# Altium schematic symbol library Schematic-Lib-ABahlmann-IC.SchLib: 124 symbols (part 1 of 4)
Pins are listed as number, name and electrical type; pins without a type are passive.

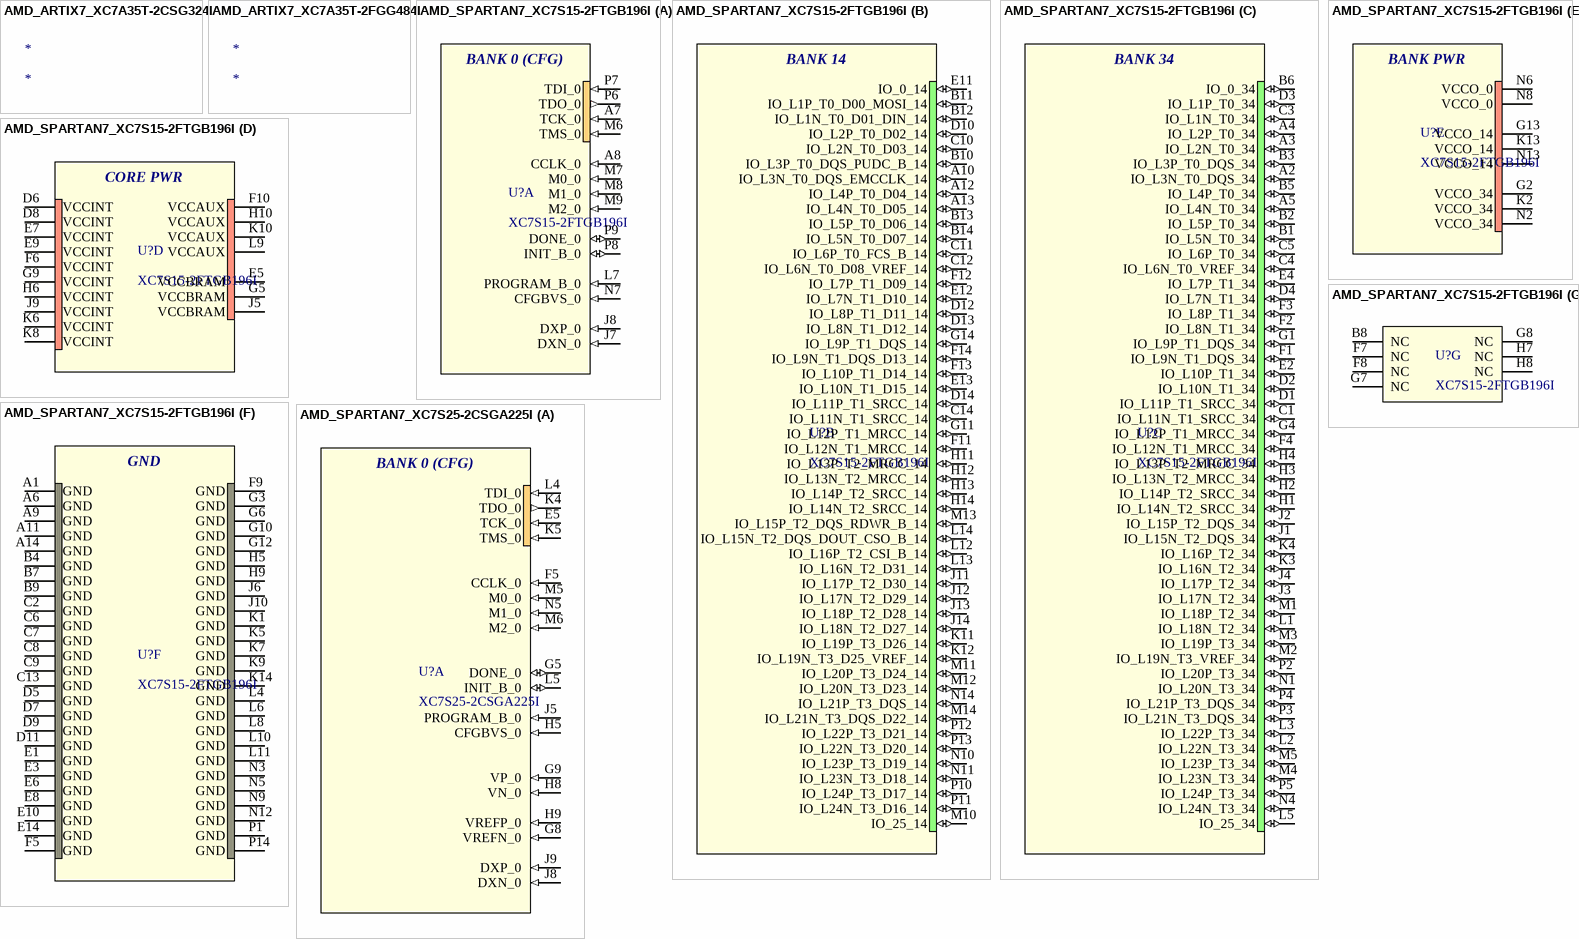
[diagram p0: symbols AMD_ARTIX7_XC7A35T-2CSG324I to AMD_SPARTAN7_XC7S25-2CSGA225I]

## AMD_ARTIX7_XC7A35T-2CSG324I
designator *

## AMD_ARTIX7_XC7A35T-2FGG484I
designator *

## AMD_SPARTAN7_XC7S15-2FTGB196I
designator U?, comment XC7S15-2FTGB196I
Spartan®-7 Field Programmable Gate Array (FPGA) IC 100 368640 12800 196-LBGA, CSPBGA; ComponentLink1Description: Digikey; ComponentLink1URL: https://www.digikey.ca/en/products/detail/amd/XC7S15-2FTGB196I/9380269; ComponentLink2Description: Datasheet; ComponentLink2URL: https://docs.xilinx.com/v/u/en-US/ug475_7Series_Pkg_Pinout
part A pins: A7 TCK_0 (in), A8 CCLK_0 (in), J7 DXN_0 (in), J8 DXP_0 (in), L7 PROGRAM_B_0 (in), M6 TMS_0 (in), M7 M0_0 (in), M8 M1_0 (in), M9 M2_0 (in), N7 CFGBVS_0 (in), P6 TDO_0 (out), P7 TDI_0 (in), P8 INIT_B_0 (io), P9 DONE_0 (io)
part B pins: A10 IO_L3N_T0_DQS_EMCCLK_14 (io), A12 IO_L4P_T0_D04_14 (io), A13 IO_L4N_T0_D05_14 (io), B10 IO_L3P_T0_DQS_PUDC_B_14 (io), B11 IO_L1P_T0_D00_MOSI_14 (io), B12 IO_L1N_T0_D01_DIN_14 (io), B13 IO_L5P_T0_D06_14 (io), B14 IO_L5N_T0_D07_14 (io), C10 IO_L2N_T0_D03_14 (io), C11 IO_L6P_T0_FCS_B_14 (io), C12 IO_L6N_T0_D08_VREF_14 (io), C14 IO_L11N_T1_SRCC_14 (io), D10 IO_L2P_T0_D02_14 (io), D12 IO_L8P_T1_D11_14 (io), D13 IO_L8N_T1_D12_14 (io), D14 IO_L11P_T1_SRCC_14 (io), E11 IO_0_14 (io), E12 IO_L7N_T1_D10_14 (io), E13 IO_L10N_T1_D15_14 (io), F11 IO_L12N_T1_MRCC_14 (io), F12 IO_L7P_T1_D09_14 (io), F13 IO_L10P_T1_D14_14 (io), F14 IO_L9N_T1_DQS_D13_14 (io), G11 IO_L12P_T1_MRCC_14 (io), G14 IO_L9P_T1_DQS_14 (io), H11 IO_L13P_T2_MRCC_14 (io), H12 IO_L13N_T2_MRCC_14 (io), H13 IO_L14P_T2_SRCC_14 (io), H14 IO_L14N_T2_SRCC_14 (io), J11 IO_L17P_T2_D30_14 (io), J12 IO_L17N_T2_D29_14 (io), J13 IO_L18P_T2_D28_14 (io), J14 IO_L18N_T2_D27_14 (io), K11 IO_L19P_T3_D26_14 (io), K12 IO_L19N_T3_D25_VREF_14 (io), L12 IO_L16P_T2_CSI_B_14 (io), L13 IO_L16N_T2_D31_14 (io), L14 IO_L15N_T2_DQS_DOUT_CSO_B_14 (io), M10 IO_25_14 (io), M11 IO_L20P_T3_D24_14 (io), M12 IO_L20N_T3_D23_14 (io), M13 IO_L15P_T2_DQS_RDWR_B_14 (io), M14 IO_L21N_T3_DQS_D22_14 (io), N10 IO_L23P_T3_D19_14 (io), N11 IO_L23N_T3_D18_14 (io), N14 IO_L21P_T3_DQS_14 (io), P10 IO_L24P_T3_D17_14 (io), P11 IO_L24N_T3_D16_14 (io), P12 IO_L22P_T3_D21_14 (io), P13 IO_L22N_T3_D20_14 (io)
part C pins: A2 IO_L3N_T0_DQS_34 (io), A3 IO_L2N_T0_34 (io), A4 IO_L2P_T0_34 (io), A5 IO_L4N_T0_34 (io), B1 IO_L5N_T0_34 (io), B2 IO_L5P_T0_34 (io), B3 IO_L3P_T0_DQS_34 (io), B5 IO_L4P_T0_34 (io), B6 IO_0_34 (io), C1 IO_L11N_T1_SRCC_34 (io), C3 IO_L1N_T0_34 (io), C4 IO_L6N_T0_VREF_34 (io), C5 IO_L6P_T0_34 (io), D1 IO_L11P_T1_SRCC_34 (io), D2 IO_L10N_T1_34 (io), D3 IO_L1P_T0_34 (io), D4 IO_L7N_T1_34 (io), E2 IO_L10P_T1_34 (io), E4 IO_L7P_T1_34 (io), F1 IO_L9N_T1_DQS_34 (io), F2 IO_L8N_T1_34 (io), F3 IO_L8P_T1_34 (io), F4 IO_L12N_T1_MRCC_34 (io), G1 IO_L9P_T1_DQS_34 (io), G4 IO_L12P_T1_MRCC_34 (io), H1 IO_L14N_T2_SRCC_34 (io), H2 IO_L14P_T2_SRCC_34 (io), H3 IO_L13N_T2_MRCC_34 (io), H4 IO_L13P_T2_MRCC_34 (io), J1 IO_L15N_T2_DQS_34 (io), J2 IO_L15P_T2_DQS_34 (io), J3 IO_L17N_T2_34 (io), J4 IO_L17P_T2_34 (io), K3 IO_L16N_T2_34 (io), K4 IO_L16P_T2_34 (io), L1 IO_L18N_T2_34 (io), L2 IO_L22N_T3_34 (io), L3 IO_L22P_T3_34 (io), L5 IO_25_34 (io), M1 IO_L18P_T2_34 (io), M2 IO_L19N_T3_VREF_34 (io), M3 IO_L19P_T3_34 (io), M4 IO_L23N_T3_34 (io), M5 IO_L23P_T3_34 (io), N1 IO_L20N_T3_34 (io), N4 IO_L24N_T3_34 (io), P2 IO_L20P_T3_34 (io), P3 IO_L21N_T3_DQS_34 (io), P4 IO_L21P_T3_DQS_34 (io), P5 IO_L24P_T3_34 (io)
part D pins: D6 VCCINT (power), D8 VCCINT (power), E5 VCCBRAM (power), E7 VCCINT (power), E9 VCCINT (power), F6 VCCINT (power), F10 VCCAUX (power), G5 VCCBRAM (power), G9 VCCINT (power), H6 VCCINT (power), H10 VCCAUX (power), J5 VCCBRAM (power), J9 VCCINT (power), K6 VCCINT (power), K8 VCCINT (power), K10 VCCAUX (power), L9 VCCAUX (power)
part E pins: G2 VCCO_34 (power), G13 VCCO_14 (power), K2 VCCO_34 (power), K13 VCCO_14 (power), N2 VCCO_34 (power), N6 VCCO_0 (power), N8 VCCO_0 (power), N13 VCCO_14 (power)
part F pins: A1 GND (power), A6 GND (power), A9 GND (power), A11 GND (power), A14 GND (power), B4 GND (power), B7 GND (power), B9 GND (power), C2 GND (power), C6 GND (power), C7 GND (power), C8 GND (power), C9 GND (power), C13 GND (power), D5 GND (power), D7 GND (power), D9 GND (power), D11 GND (power), E1 GND (power), E3 GND (power), E6 GND (power), E8 GND (power), E10 GND (power), E14 GND (power), F5 GND (power), F9 GND (power), G3 GND (power), G6 GND (power), G10 GND (power), G12 GND (power), H5 GND (power), H9 GND (power), J6 GND (power), J10 GND (power), K1 GND (power), K5 GND (power), K7 GND (power), K9 GND (power), K14 GND (power), L4 GND (power), L6 GND (power), L8 GND (power), L10 GND (power), L11 GND (power), N3 GND (power), N5 GND (power), N9 GND (power), N12 GND (power), P1 GND (power), P14 GND (power)
part G pins: B8 NC, F7 NC, F8 NC, G7 NC, G8 NC, H7 NC, H8 NC
part A text: BANK 0 (CFG)
part B text: BANK 14
part C text: BANK 34
part D text: CORE PWR
part E text: BANK PWR

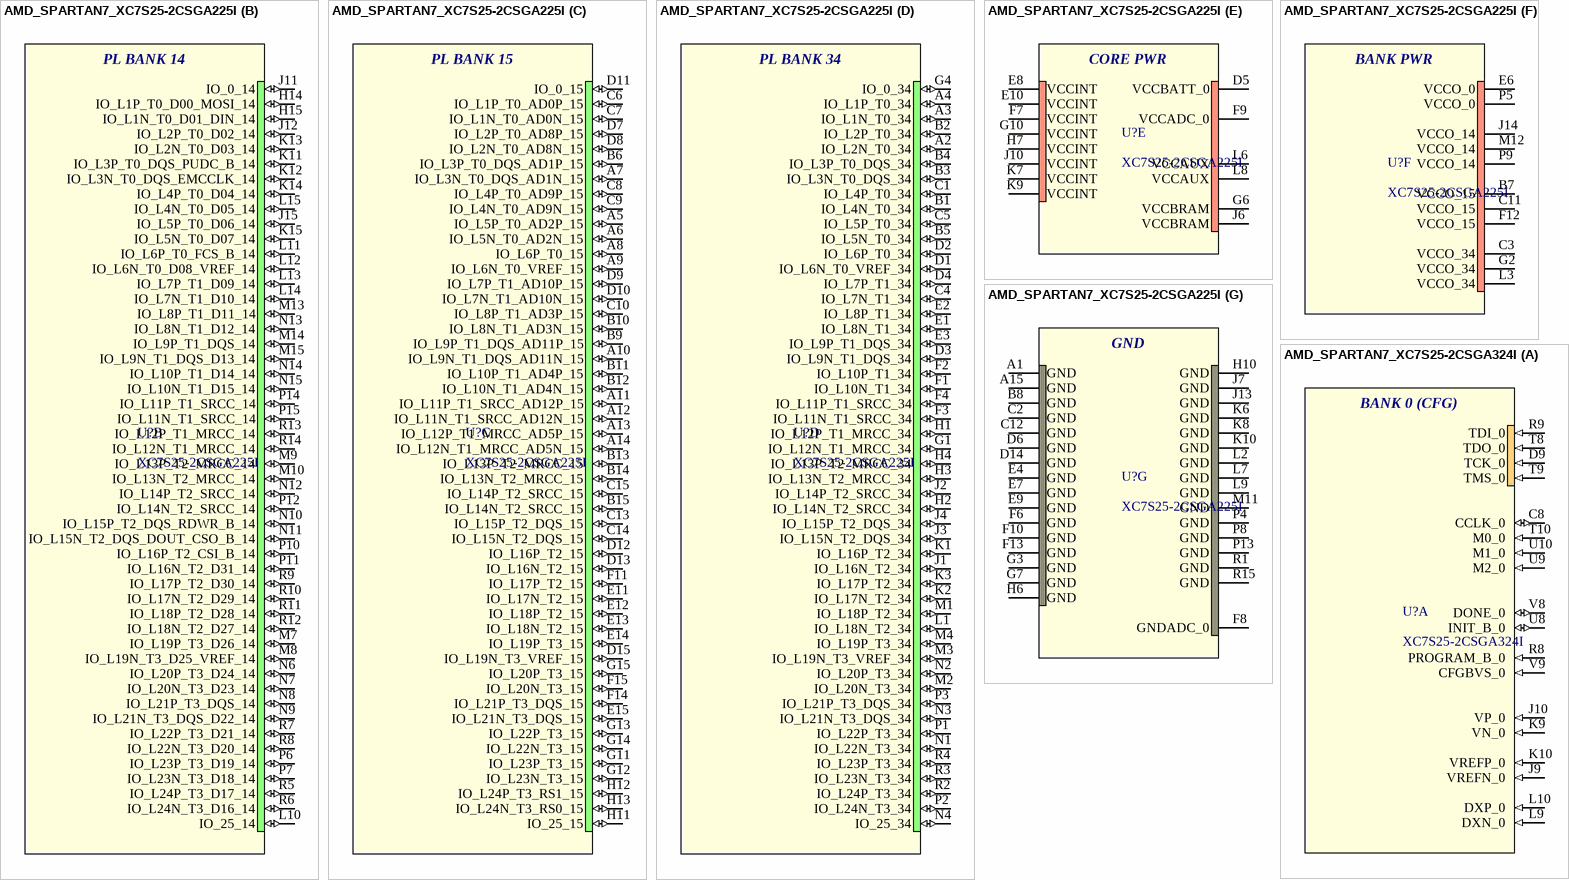
[diagram p1: symbols AMD_SPARTAN7_XC7S25-2CSGA225I to AMD_SPARTAN7_XC7S25-2CSGA324I]

## AMD_SPARTAN7_XC7S25-2CSGA225I
designator U?, comment XC7S25-2CSGA225I
Spartan®-7 Field Programmable Gate Array (FPGA) IC 150 1658880 23360 225-LFBGA, CSPBGA; ComponentLink1Description: Digikey; ComponentLink1URL: https://www.digikey.ca/en/products/detail/amd/XC7S25-2CSGA225I/8040778; ComponentLink2Description: Datasheet; ComponentLink2URL: https://docs.amd.com/v/u/en-US/ds180_7Series_Overview; ComponentLink3Description: LCSC; ComponentLink3URL: https://jlcpcb.com/partdetail/AMDXILINX-XC7S252CSGA225I/C1521711
footprint AMD_SPARTAN7_XC7S25-2CSGA225I (Spartan®-7 Field Programmable Gate Array (FPGA) IC 150 1658880 23360 225-LFBGA, CSPBGA)
part A pins: E5 TCK_0 (in), F5 CCLK_0 (in), G5 DONE_0 (io), G8 VREFN_0 (in), G9 VP_0 (in), H5 CFGBVS_0 (in), H8 VN_0 (in), H9 VREFP_0 (in), J5 PROGRAM_B_0 (in), J8 DXN_0 (in), J9 DXP_0 (in), K4 TDO_0 (out), K5 TMS_0 (in), L4 TDI_0 (in), L5 INIT_B_0 (io), M5 M0_0 (in), M6 M2_0 (in), N5 M1_0 (in)
part B pins: H14 IO_L1P_T0_D00_MOSI_14 (io), H15 IO_L1N_T0_D01_DIN_14 (io), J11 IO_0_14 (io), J12 IO_L2P_T0_D02_14 (io), J15 IO_L5P_T0_D06_14 (io), K11 IO_L3P_T0_DQS_PUDC_B_14 (io), K12 IO_L3N_T0_DQS_EMCCLK_14 (io), K13 IO_L2N_T0_D03_14 (io), K14 IO_L4P_T0_D04_14 (io), K15 IO_L5N_T0_D07_14 (io), L10 IO_25_14 (io), L11 IO_L6P_T0_FCS_B_14 (io), L12 IO_L6N_T0_D08_VREF_14 (io), L13 IO_L7P_T1_D09_14 (io), L14 IO_L7N_T1_D10_14 (io), L15 IO_L4N_T0_D05_14 (io), M7 IO_L19P_T3_D26_14 (io), M8 IO_L19N_T3_D25_VREF_14 (io), M9 IO_L13P_T2_MRCC_14 (io), M10 IO_L13N_T2_MRCC_14 (io), M13 IO_L8P_T1_D11_14 (io), M14 IO_L9P_T1_DQS_14 (io), M15 IO_L9N_T1_DQS_D13_14 (io), N6 IO_L20P_T3_D24_14 (io), N7 IO_L20N_T3_D23_14 (io), N8 IO_L21P_T3_DQS_14 (io), N9 IO_L21N_T3_DQS_D22_14 (io), N10 IO_L15P_T2_DQS_RDWR_B_14 (io), N11 IO_L15N_T2_DQS_DOUT_CSO_B_14 (io), N12 IO_L14P_T2_SRCC_14 (io), N13 IO_L8N_T1_D12_14 (io), N14 IO_L10P_T1_D14_14 (io), N15 IO_L10N_T1_D15_14 (io), P6 IO_L23P_T3_D19_14 (io), P7 IO_L23N_T3_D18_14 (io), P10 IO_L16P_T2_CSI_B_14 (io), P11 IO_L16N_T2_D31_14 (io), P12 IO_L14N_T2_SRCC_14 (io), P14 IO_L11P_T1_SRCC_14 (io), P15 IO_L11N_T1_SRCC_14 (io), R5 IO_L24P_T3_D17_14 (io), R6 IO_L24N_T3_D16_14 (io), R7 IO_L22P_T3_D21_14 (io), R8 IO_L22N_T3_D20_14 (io), R9 IO_L17P_T2_D30_14 (io), R10 IO_L17N_T2_D29_14 (io), R11 IO_L18P_T2_D28_14 (io), R12 IO_L18N_T2_D27_14 (io), R13 IO_L12P_T1_MRCC_14 (io), R14 IO_L12N_T1_MRCC_14 (io)
part C pins: A5 IO_L5P_T0_AD2P_15 (io), A6 IO_L5N_T0_AD2N_15 (io), A7 IO_L3N_T0_DQS_AD1N_15 (io), A8 IO_L6P_T0_15 (io), A9 IO_L6N_T0_VREF_15 (io), A10 IO_L9N_T1_DQS_AD11N_15 (io), A11 IO_L11P_T1_SRCC_AD12P_15 (io), A12 IO_L11N_T1_SRCC_AD12N_15 (io), A13 IO_L12P_T1_MRCC_AD5P_15 (io), A14 IO_L12N_T1_MRCC_AD5N_15 (io), B6 IO_L3P_T0_DQS_AD1P_15 (io), B9 IO_L9P_T1_DQS_AD11P_15 (io), B10 IO_L8N_T1_AD3N_15 (io), B11 IO_L10P_T1_AD4P_15 (io), B12 IO_L10N_T1_AD4N_15 (io), B13 IO_L13P_T2_MRCC_15 (io), B14 IO_L13N_T2_MRCC_15 (io), B15 IO_L14N_T2_SRCC_15 (io), C6 IO_L1P_T0_AD0P_15 (io), C7 IO_L1N_T0_AD0N_15 (io), C8 IO_L4P_T0_AD9P_15 (io), C9 IO_L4N_T0_AD9N_15 (io), C10 IO_L8P_T1_AD3P_15 (io), C13 IO_L15P_T2_DQS_15 (io), C14 IO_L15N_T2_DQS_15 (io), C15 IO_L14P_T2_SRCC_15 (io), D7 IO_L2P_T0_AD8P_15 (io), D8 IO_L2N_T0_AD8N_15 (io), D9 IO_L7P_T1_AD10P_15 (io), D10 IO_L7N_T1_AD10N_15 (io), D11 IO_0_15 (io), D12 IO_L16P_T2_15 (io), D13 IO_L16N_T2_15 (io), D15 IO_L19N_T3_VREF_15 (io), E11 IO_L17N_T2_15 (io), E12 IO_L18P_T2_15 (io), E13 IO_L18N_T2_15 (io), E14 IO_L19P_T3_15 (io), E15 IO_L21N_T3_DQS_15 (io), F11 IO_L17P_T2_15 (io), F14 IO_L21P_T3_DQS_15 (io), F15 IO_L20N_T3_15 (io), G11 IO_L23P_T3_15 (io), G12 IO_L23N_T3_15 (io), G13 IO_L22P_T3_15 (io), G14 IO_L22N_T3_15 (io), G15 IO_L20P_T3_15 (io), H11 IO_25_15 (io), H12 IO_L24P_T3_RS1_15 (io), H13 IO_L24N_T3_RS0_15 (io)
part D pins: A2 IO_L2N_T0_34 (io), A3 IO_L1N_T0_34 (io), A4 IO_L1P_T0_34 (io), B1 IO_L4N_T0_34 (io), B2 IO_L2P_T0_34 (io), B3 IO_L3N_T0_DQS_34 (io), B4 IO_L3P_T0_DQS_34 (io), B5 IO_L5N_T0_34 (io), C1 IO_L4P_T0_34 (io), C4 IO_L7N_T1_34 (io), C5 IO_L5P_T0_34 (io), D1 IO_L6N_T0_VREF_34 (io), D2 IO_L6P_T0_34 (io), D3 IO_L9N_T1_DQS_34 (io), D4 IO_L7P_T1_34 (io), E1 IO_L8N_T1_34 (io), E2 IO_L8P_T1_34 (io), E3 IO_L9P_T1_DQS_34 (io), F1 IO_L10N_T1_34 (io), F2 IO_L10P_T1_34 (io), F3 IO_L11N_T1_SRCC_34 (io), F4 IO_L11P_T1_SRCC_34 (io), G1 IO_L12N_T1_MRCC_34 (io), G4 IO_0_34 (io), H1 IO_L12P_T1_MRCC_34 (io), H2 IO_L14N_T2_SRCC_34 (io), H3 IO_L13N_T2_MRCC_34 (io), H4 IO_L13P_T2_MRCC_34 (io), J1 IO_L16N_T2_34 (io), J2 IO_L14P_T2_SRCC_34 (io), J3 IO_L15N_T2_DQS_34 (io), J4 IO_L15P_T2_DQS_34 (io), K1 IO_L16P_T2_34 (io), K2 IO_L17N_T2_34 (io), K3 IO_L17P_T2_34 (io), L1 IO_L18N_T2_34 (io), M1 IO_L18P_T2_34 (io), M2 IO_L20N_T3_34 (io), M3 IO_L19N_T3_VREF_34 (io), M4 IO_L19P_T3_34 (io), N1 IO_L22N_T3_34 (io), N2 IO_L20P_T3_34 (io), N3 IO_L21N_T3_DQS_34 (io), N4 IO_25_34 (io), P1 IO_L22P_T3_34 (io), P2 IO_L24N_T3_34 (io), P3 IO_L21P_T3_DQS_34 (io), R2 IO_L24P_T3_34 (io), R3 IO_L23N_T3_34 (io), R4 IO_L23P_T3_34 (io)
part E pins: D5 VCCBATT_0 (power), E8 VCCINT (power), E10 VCCINT (power), F7 VCCINT (power), F9 VCCADC_0 (power), G6 VCCBRAM (power), G10 VCCINT (power), H7 VCCINT (power), J6 VCCBRAM (power), J10 VCCINT (power), K7 VCCINT (power), K9 VCCINT (power), L6 VCCAUX (power), L8 VCCAUX (power)
part F pins: B7 VCCO_15 (power), C3 VCCO_34 (power), C11 VCCO_15 (power), E6 VCCO_0 (power), F12 VCCO_15 (power), G2 VCCO_34 (power), J14 VCCO_14 (power), L3 VCCO_34 (power), M12 VCCO_14 (power), P5 VCCO_0 (power), P9 VCCO_14 (power)
part G pins: A1 GND (power), A15 GND (power), B8 GND (power), C2 GND (power), C12 GND (power), D6 GND (power), D14 GND (power), E4 GND (power), E7 GND (power), E9 GND (power), F6 GND (power), F8 GNDADC_0 (power), F10 GND (power), F13 GND (power), G3 GND (power), G7 GND (power), H6 GND (power), H10 GND (power), J7 GND (power), J13 GND (power), K6 GND (power), K8 GND (power), K10 GND (power), L2 GND (power), L7 GND (power), L9 GND (power), M11 GND (power), P4 GND (power), P8 GND (power), P13 GND (power), R1 GND (power), R15 GND (power)
part A text: BANK 0 (CFG)
part B text: PL BANK 14
part C text: PL BANK 15
part D text: PL BANK 34
part E text: CORE PWR
part F text: BANK PWR

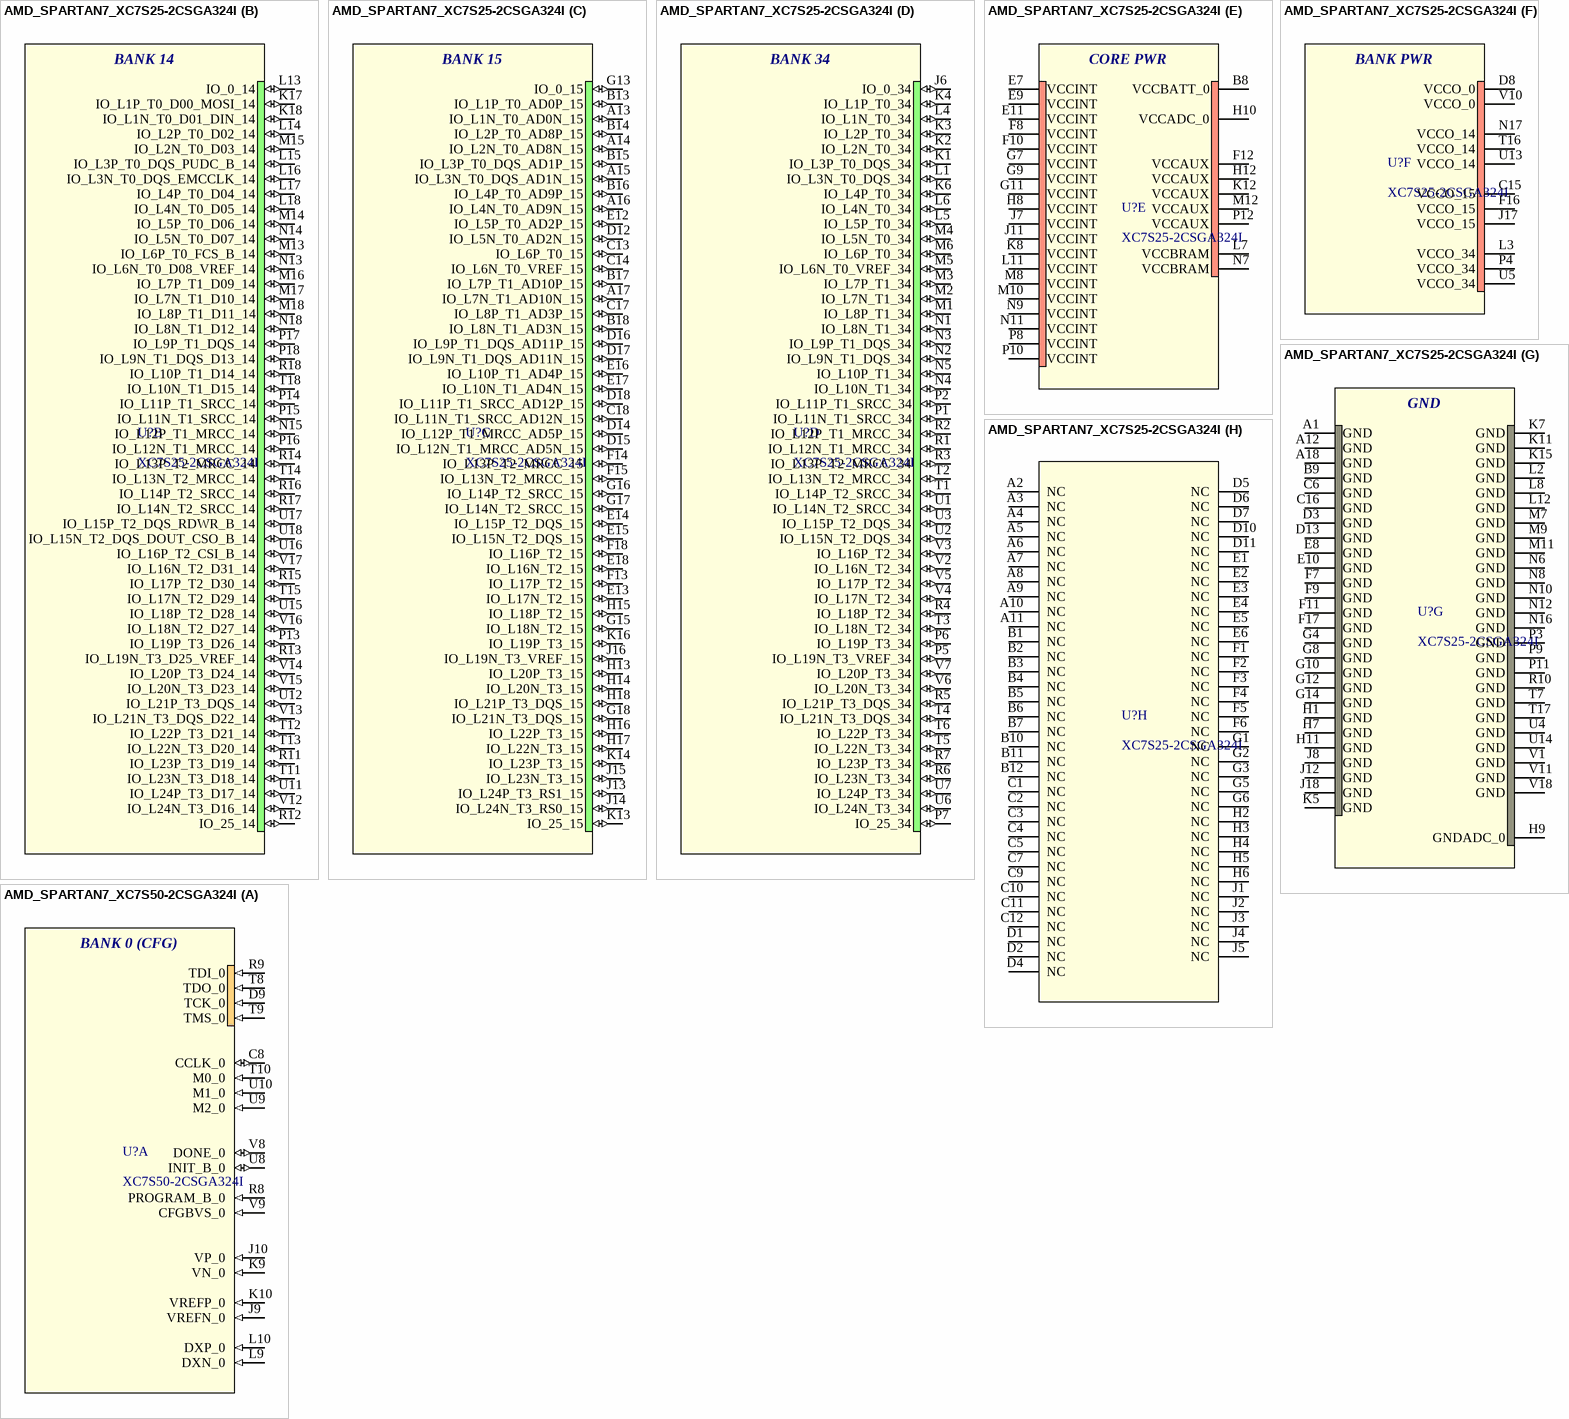
[diagram p2: symbols AMD_SPARTAN7_XC7S25-2CSGA324I to AMD_SPARTAN7_XC7S50-2CSGA324I]

## AMD_SPARTAN7_XC7S25-2CSGA324I
designator U?, comment XC7S25-2CSGA324I
Spartan®-7 Field Programmable Gate Array (FPGA) IC 150 1658880 23360 324-LFBGA, CSPBGA; ComponentLink1Description: Digikey; ComponentLink1URL: https://www.digikey.ca/en/products/detail/amd/XC7S25-2CSGA324I/8040780; ComponentLink2Description: Datasheet; ComponentLink2URL: https://docs.amd.com/v/u/en-US/ds180_7Series_Overview; ComponentLink3Description: LCSC; ComponentLink3URL: https://jlcpcb.com/partdetail/AMDXILINX-XC7S252CSGA324I/C5308065
footprint AMD_SPARTAN7_XC7S25-2CSGA324I (Spartan®-7 Field Programmable Gate Array (FPGA) IC 150 1658880 23360 324-LFBGA, CSPBGA)
part A pins: C8 CCLK_0 (io), D9 TCK_0 (in), J9 VREFN_0 (in), J10 VP_0 (in), K9 VN_0 (in), K10 VREFP_0 (in), L9 DXN_0 (in), L10 DXP_0 (in), R8 PROGRAM_B_0 (in), R9 TDI_0 (in), T8 TDO_0 (in), T9 TMS_0 (in), T10 M0_0 (in), U8 INIT_B_0 (io), U9 M2_0 (in), U10 M1_0 (in), V8 DONE_0 (io), V9 CFGBVS_0 (in)
part B pins: K17 IO_L1P_T0_D00_MOSI_14 (io), K18 IO_L1N_T0_D01_DIN_14 (io), L13 IO_0_14 (io), L14 IO_L2P_T0_D02_14 (io), L15 IO_L3P_T0_DQS_PUDC_B_14 (io), L16 IO_L3N_T0_DQS_EMCCLK_14 (io), L17 IO_L4P_T0_D04_14 (io), L18 IO_L4N_T0_D05_14 (io), M13 IO_L6P_T0_FCS_B_14 (io), M14 IO_L5P_T0_D06_14 (io), M15 IO_L2N_T0_D03_14 (io), M16 IO_L7P_T1_D09_14 (io), M17 IO_L7N_T1_D10_14 (io), M18 IO_L8P_T1_D11_14 (io), N13 IO_L6N_T0_D08_VREF_14 (io), N14 IO_L5N_T0_D07_14 (io), N15 IO_L12P_T1_MRCC_14 (io), N18 IO_L8N_T1_D12_14 (io), P13 IO_L19P_T3_D26_14 (io), P14 IO_L11P_T1_SRCC_14 (io), P15 IO_L11N_T1_SRCC_14 (io), P16 IO_L12N_T1_MRCC_14 (io), P17 IO_L9P_T1_DQS_14 (io), P18 IO_L9N_T1_DQS_D13_14 (io), R11 IO_L23P_T3_D19_14 (io), R12 IO_25_14 (io), R13 IO_L19N_T3_D25_VREF_14 (io), R14 IO_L13P_T2_MRCC_14 (io), R15 IO_L17P_T2_D30_14 (io), R16 IO_L14P_T2_SRCC_14 (io), R17 IO_L14N_T2_SRCC_14 (io), R18 IO_L10P_T1_D14_14 (io), T11 IO_L23N_T3_D18_14 (io), T12 IO_L22P_T3_D21_14 (io), T13 IO_L22N_T3_D20_14 (io), T14 IO_L13N_T2_MRCC_14 (io), T15 IO_L17N_T2_D29_14 (io), T18 IO_L10N_T1_D15_14 (io), U11 IO_L24P_T3_D17_14 (io), U12 IO_L21P_T3_DQS_14 (io), U15 IO_L18P_T2_D28_14 (io), U16 IO_L16P_T2_CSI_B_14 (io), U17 IO_L15P_T2_DQS_RDWR_B_14 (io), U18 IO_L15N_T2_DQS_DOUT_CSO_B_14 (io), V12 IO_L24N_T3_D16_14 (io), V13 IO_L21N_T3_DQS_D22_14 (io), V14 IO_L20P_T3_D24_14 (io), V15 IO_L20N_T3_D23_14 (io), V16 IO_L18N_T2_D27_14 (io), V17 IO_L16N_T2_D31_14 (io)
part C pins: A13 IO_L1N_T0_AD0N_15 (io), A14 IO_L2N_T0_AD8N_15 (io), A15 IO_L3N_T0_DQS_AD1N_15 (io), A16 IO_L4N_T0_AD9N_15 (io), A17 IO_L7N_T1_AD10N_15 (io), B13 IO_L1P_T0_AD0P_15 (io), B14 IO_L2P_T0_AD8P_15 (io), B15 IO_L3P_T0_DQS_AD1P_15 (io), B16 IO_L4P_T0_AD9P_15 (io), B17 IO_L7P_T1_AD10P_15 (io), B18 IO_L8N_T1_AD3N_15 (io), C13 IO_L6P_T0_15 (io), C14 IO_L6N_T0_VREF_15 (io), C17 IO_L8P_T1_AD3P_15 (io), C18 IO_L11N_T1_SRCC_AD12N_15 (io), D12 IO_L5N_T0_AD2N_15 (io), D14 IO_L12P_T1_MRCC_AD5P_15 (io), D15 IO_L12N_T1_MRCC_AD5N_15 (io), D16 IO_L9P_T1_DQS_AD11P_15 (io), D17 IO_L9N_T1_DQS_AD11N_15 (io), D18 IO_L11P_T1_SRCC_AD12P_15 (io), E12 IO_L5P_T0_AD2P_15 (io), E13 IO_L17N_T2_15 (io), E14 IO_L15P_T2_DQS_15 (io), E15 IO_L15N_T2_DQS_15 (io), E16 IO_L10P_T1_AD4P_15 (io), E17 IO_L10N_T1_AD4N_15 (io), E18 IO_L16N_T2_15 (io), F13 IO_L17P_T2_15 (io), F14 IO_L13P_T2_MRCC_15 (io), F15 IO_L13N_T2_MRCC_15 (io), F18 IO_L16P_T2_15 (io), G13 IO_0_15 (io), G15 IO_L18N_T2_15 (io), G16 IO_L14P_T2_SRCC_15 (io), G17 IO_L14N_T2_SRCC_15 (io), G18 IO_L21N_T3_DQS_15 (io), H13 IO_L20P_T3_15 (io), H14 IO_L20N_T3_15 (io), H15 IO_L18P_T2_15 (io), H16 IO_L22P_T3_15 (io), H17 IO_L22N_T3_15 (io), H18 IO_L21P_T3_DQS_15 (io), J13 IO_L24P_T3_RS1_15 (io), J14 IO_L24N_T3_RS0_15 (io), J15 IO_L23N_T3_15 (io), J16 IO_L19N_T3_VREF_15 (io), K13 IO_25_15 (io), K14 IO_L23P_T3_15 (io), K16 IO_L19P_T3_15 (io)
part D pins: J6 IO_0_34 (io), K1 IO_L3P_T0_DQS_34 (io), K2 IO_L2N_T0_34 (io), K3 IO_L2P_T0_34 (io), K4 IO_L1P_T0_34 (io), K6 IO_L4P_T0_34 (io), L1 IO_L3N_T0_DQS_34 (io), L4 IO_L1N_T0_34 (io), L5 IO_L5P_T0_34 (io), L6 IO_L4N_T0_34 (io), M1 IO_L8P_T1_34 (io), M2 IO_L7N_T1_34 (io), M3 IO_L7P_T1_34 (io), M4 IO_L5N_T0_34 (io), M5 IO_L6N_T0_VREF_34 (io), M6 IO_L6P_T0_34 (io), N1 IO_L8N_T1_34 (io), N2 IO_L9N_T1_DQS_34 (io), N3 IO_L9P_T1_DQS_34 (io), N4 IO_L10N_T1_34 (io), N5 IO_L10P_T1_34 (io), P1 IO_L11N_T1_SRCC_34 (io), P2 IO_L11P_T1_SRCC_34 (io), P5 IO_L19N_T3_VREF_34 (io), P6 IO_L19P_T3_34 (io), P7 IO_25_34 (io), R1 IO_L12N_T1_MRCC_34 (io), R2 IO_L12P_T1_MRCC_34 (io), R3 IO_L13P_T2_MRCC_34 (io), R4 IO_L18P_T2_34 (io), R5 IO_L21P_T3_DQS_34 (io), R6 IO_L23N_T3_34 (io), R7 IO_L23P_T3_34 (io), T1 IO_L14P_T2_SRCC_34 (io), T2 IO_L13N_T2_MRCC_34 (io), T3 IO_L18N_T2_34 (io), T4 IO_L21N_T3_DQS_34 (io), T5 IO_L22N_T3_34 (io), T6 IO_L22P_T3_34 (io), U1 IO_L14N_T2_SRCC_34 (io), U2 IO_L15N_T2_DQS_34 (io), U3 IO_L15P_T2_DQS_34 (io), U6 IO_L24N_T3_34 (io), U7 IO_L24P_T3_34 (io), V2 IO_L16N_T2_34 (io), V3 IO_L16P_T2_34 (io), V4 IO_L17N_T2_34 (io), V5 IO_L17P_T2_34 (io), V6 IO_L20N_T3_34 (io), V7 IO_L20P_T3_34 (io)
part E pins: B8 VCCBATT_0 (power), E7 VCCINT (power), E9 VCCINT (power), E11 VCCINT (power), F8 VCCINT (power), F10 VCCINT (power), F12 VCCAUX (power), G7 VCCINT (power), G9 VCCINT (power), G11 VCCINT (power), H8 VCCINT (power), H10 VCCADC_0 (power), H12 VCCAUX (power), J7 VCCINT (power), J11 VCCINT (power), K8 VCCINT (power), K12 VCCAUX (power), L7 VCCBRAM (power), L11 VCCINT (power), M8 VCCINT (power), M10 VCCINT (power), M12 VCCAUX (power), N7 VCCBRAM (power), N9 VCCINT (power), N11 VCCINT (power), P8 VCCINT (power), P10 VCCINT (power), P12 VCCAUX (power)
part F pins: C15 VCCO_15 (power), D8 VCCO_0 (power), F16 VCCO_15 (power), J17 VCCO_15 (power), L3 VCCO_34 (power), N17 VCCO_14 (power), P4 VCCO_34 (power), T16 VCCO_14 (power), U5 VCCO_34 (power), U13 VCCO_14 (power), V10 VCCO_0 (power)
part G pins: A1 GND (power), A12 GND (power), A18 GND (power), B9 GND (power), C6 GND (power), C16 GND (power), D3 GND (power), D13 GND (power), E8 GND (power), E10 GND (power), F7 GND (power), F9 GND (power), F11 GND (power), F17 GND (power), G4 GND (power), G8 GND (power), G10 GND (power), G12 GND (power), G14 GND (power), H1 GND (power), H7 GND (power), H9 GNDADC_0 (power), H11 GND (power), J8 GND (power), J12 GND (power), J18 GND (power), K5 GND (power), K7 GND (power), K11 GND (power), K15 GND (power), L2 GND (power), L8 GND (power), L12 GND (power), M7 GND (power), M9 GND (power), M11 GND (power), N6 GND (power), N8 GND (power), N10 GND (power), N12 GND (power), N16 GND (power), P3 GND (power), P9 GND (power), P11 GND (power), R10 GND (power), T7 GND (power), T17 GND (power), U4 GND (power), U14 GND (power), V1 GND (power), V11 GND (power), V18 GND (power)
part H pins: A2 NC, A3 NC, A4 NC, A5 NC, A6 NC, A7 NC, A8 NC, A9 NC, A10 NC, A11 NC, B1 NC, B2 NC, B3 NC, B4 NC, B5 NC, B6 NC, B7 NC, B10 NC, B11 NC, B12 NC, C1 NC, C2 NC, C3 NC, C4 NC, C5 NC, C7 NC, C9 NC, C10 NC, C11 NC, C12 NC, D1 NC, D2 NC, D4 NC, D5 NC, D6 NC, D7 NC, D10 NC, D11 NC, E1 NC, E2 NC, E3 NC, E4 NC, E5 NC, E6 NC, F1 NC, F2 NC, F3 NC, F4 NC, F5 NC, F6 NC, G1 NC, G2 NC, G3 NC, G5 NC, G6 NC, H2 NC, H3 NC, H4 NC, H5 NC, H6 NC, J1 NC, J2 NC, J3 NC, J4 NC, J5 NC
part A text: BANK 0 (CFG)
part B text: BANK 14
part C text: BANK 15
part D text: BANK 34
part E text: CORE PWR
part F text: BANK PWR

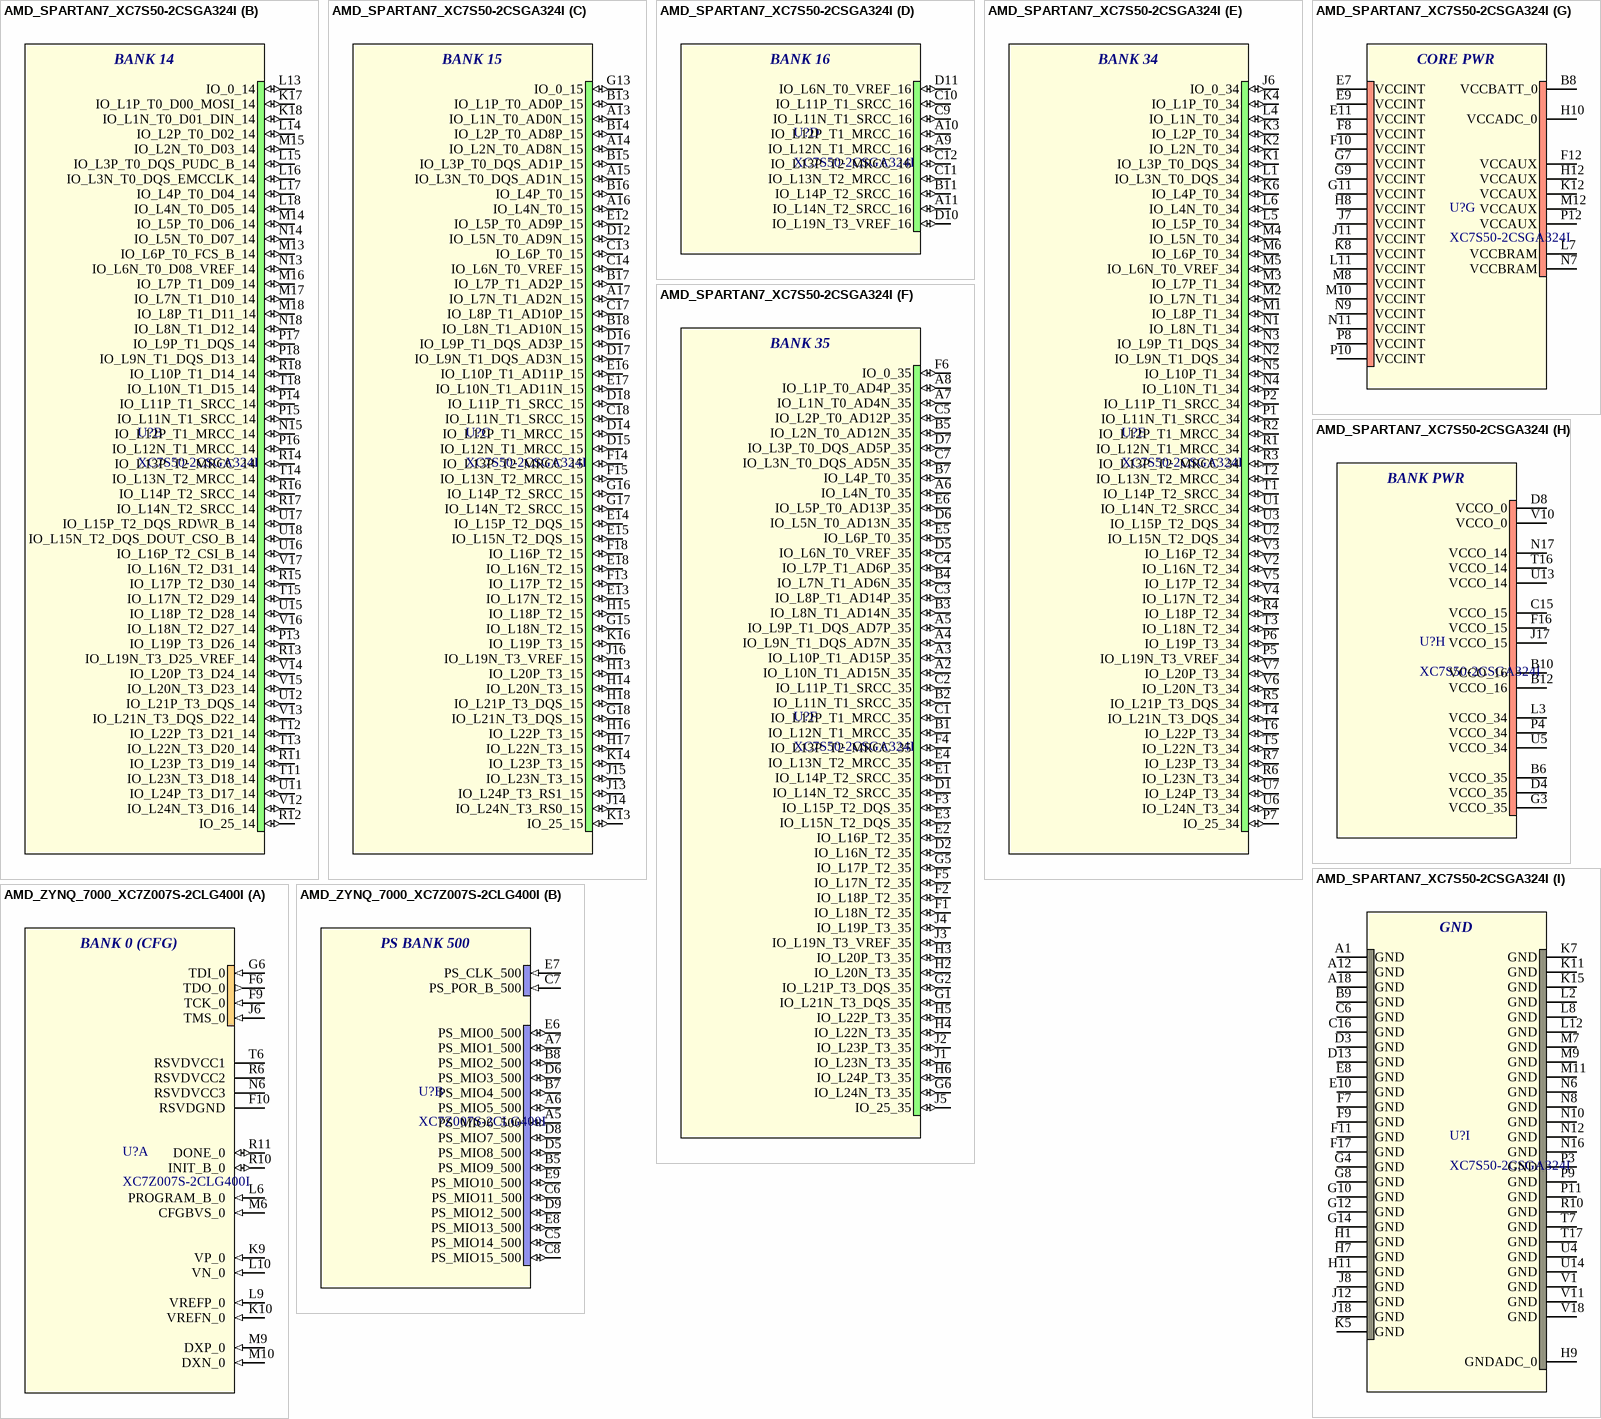
[diagram p3: symbols AMD_SPARTAN7_XC7S50-2CSGA324I to AMD_ZYNQ_7000_XC7Z007S-2CLG400I]

## AMD_SPARTAN7_XC7S50-2CSGA324I
designator U?, comment XC7S50-2CSGA324I
Spartan®-7 Field Programmable Gate Array (FPGA) IC 210 2764800 52160 324-LFBGA, CSPBGA; ComponentLink1Description: Digikey; ComponentLink1URL: https://www.digikey.ca/en/products/detail/amd/XC7S50-2CSGA324I/7389944; ComponentLink2Description: Datasheet; ComponentLink2URL: https://docs.amd.com/v/u/en-US/ds180_7Series_Overview; ComponentLink3Description: LCSC; ComponentLink3URL: https://jlcpcb.com/partdetail/AMDXILINX-XC7S502CSGA324I/C1521730
footprint AMD_SPARTAN7_XC7S50-2CSGA324I (Spartan®-7 Field Programmable Gate Array (FPGA) IC 210 2764800 52160 324-LFBGA, CSPBGA)
part A pins: C8 CCLK_0 (io), D9 TCK_0 (in), J9 VREFN_0 (in), J10 VP_0 (in), K9 VN_0 (in), K10 VREFP_0 (in), L9 DXN_0 (in), L10 DXP_0 (in), R8 PROGRAM_B_0 (in), R9 TDI_0 (in), T8 TDO_0 (in), T9 TMS_0 (in), T10 M0_0 (in), U8 INIT_B_0 (io), U9 M2_0 (in), U10 M1_0 (in), V8 DONE_0 (io), V9 CFGBVS_0 (in)
part B pins: K17 IO_L1P_T0_D00_MOSI_14 (io), K18 IO_L1N_T0_D01_DIN_14 (io), L13 IO_0_14 (io), L14 IO_L2P_T0_D02_14 (io), L15 IO_L3P_T0_DQS_PUDC_B_14 (io), L16 IO_L3N_T0_DQS_EMCCLK_14 (io), L17 IO_L4P_T0_D04_14 (io), L18 IO_L4N_T0_D05_14 (io), M13 IO_L6P_T0_FCS_B_14 (io), M14 IO_L5P_T0_D06_14 (io), M15 IO_L2N_T0_D03_14 (io), M16 IO_L7P_T1_D09_14 (io), M17 IO_L7N_T1_D10_14 (io), M18 IO_L8P_T1_D11_14 (io), N13 IO_L6N_T0_D08_VREF_14 (io), N14 IO_L5N_T0_D07_14 (io), N15 IO_L12P_T1_MRCC_14 (io), N18 IO_L8N_T1_D12_14 (io), P13 IO_L19P_T3_D26_14 (io), P14 IO_L11P_T1_SRCC_14 (io), P15 IO_L11N_T1_SRCC_14 (io), P16 IO_L12N_T1_MRCC_14 (io), P17 IO_L9P_T1_DQS_14 (io), P18 IO_L9N_T1_DQS_D13_14 (io), R11 IO_L23P_T3_D19_14 (io), R12 IO_25_14 (io), R13 IO_L19N_T3_D25_VREF_14 (io), R14 IO_L13P_T2_MRCC_14 (io), R15 IO_L17P_T2_D30_14 (io), R16 IO_L14P_T2_SRCC_14 (io), R17 IO_L14N_T2_SRCC_14 (io), R18 IO_L10P_T1_D14_14 (io), T11 IO_L23N_T3_D18_14 (io), T12 IO_L22P_T3_D21_14 (io), T13 IO_L22N_T3_D20_14 (io), T14 IO_L13N_T2_MRCC_14 (io), T15 IO_L17N_T2_D29_14 (io), T18 IO_L10N_T1_D15_14 (io), U11 IO_L24P_T3_D17_14 (io), U12 IO_L21P_T3_DQS_14 (io), U15 IO_L18P_T2_D28_14 (io), U16 IO_L16P_T2_CSI_B_14 (io), U17 IO_L15P_T2_DQS_RDWR_B_14 (io), U18 IO_L15N_T2_DQS_DOUT_CSO_B_14 (io), V12 IO_L24N_T3_D16_14 (io), V13 IO_L21N_T3_DQS_D22_14 (io), V14 IO_L20P_T3_D24_14 (io), V15 IO_L20N_T3_D23_14 (io), V16 IO_L18N_T2_D27_14 (io), V17 IO_L16N_T2_D31_14 (io)
part C pins: A13 IO_L1N_T0_AD0N_15 (io), A14 IO_L2N_T0_AD8N_15 (io), A15 IO_L3N_T0_DQS_AD1N_15 (io), A16 IO_L4N_T0_15 (io), A17 IO_L7N_T1_AD2N_15 (io), B13 IO_L1P_T0_AD0P_15 (io), B14 IO_L2P_T0_AD8P_15 (io), B15 IO_L3P_T0_DQS_AD1P_15 (io), B16 IO_L4P_T0_15 (io), B17 IO_L7P_T1_AD2P_15 (io), B18 IO_L8N_T1_AD10N_15 (io), C13 IO_L6P_T0_15 (io), C14 IO_L6N_T0_VREF_15 (io), C17 IO_L8P_T1_AD10P_15 (io), C18 IO_L11N_T1_SRCC_15 (io), D12 IO_L5N_T0_AD9N_15 (io), D14 IO_L12P_T1_MRCC_15 (io), D15 IO_L12N_T1_MRCC_15 (io), D16 IO_L9P_T1_DQS_AD3P_15 (io), D17 IO_L9N_T1_DQS_AD3N_15 (io), D18 IO_L11P_T1_SRCC_15 (io), E12 IO_L5P_T0_AD9P_15 (io), E13 IO_L17N_T2_15 (io), E14 IO_L15P_T2_DQS_15 (io), E15 IO_L15N_T2_DQS_15 (io), E16 IO_L10P_T1_AD11P_15 (io), E17 IO_L10N_T1_AD11N_15 (io), E18 IO_L16N_T2_15 (io), F13 IO_L17P_T2_15 (io), F14 IO_L13P_T2_MRCC_15 (io), F15 IO_L13N_T2_MRCC_15 (io), F18 IO_L16P_T2_15 (io), G13 IO_0_15 (io), G15 IO_L18N_T2_15 (io), G16 IO_L14P_T2_SRCC_15 (io), G17 IO_L14N_T2_SRCC_15 (io), G18 IO_L21N_T3_DQS_15 (io), H13 IO_L20P_T3_15 (io), H14 IO_L20N_T3_15 (io), H15 IO_L18P_T2_15 (io), H16 IO_L22P_T3_15 (io), H17 IO_L22N_T3_15 (io), H18 IO_L21P_T3_DQS_15 (io), J13 IO_L24P_T3_RS1_15 (io), J14 IO_L24N_T3_RS0_15 (io), J15 IO_L23N_T3_15 (io), J16 IO_L19N_T3_VREF_15 (io), K13 IO_25_15 (io), K14 IO_L23P_T3_15 (io), K16 IO_L19P_T3_15 (io)
part D pins: A9 IO_L12N_T1_MRCC_16 (io), A10 IO_L12P_T1_MRCC_16 (io), A11 IO_L14N_T2_SRCC_16 (io), B11 IO_L14P_T2_SRCC_16 (io), C9 IO_L11N_T1_SRCC_16 (io), C10 IO_L11P_T1_SRCC_16 (io), C11 IO_L13N_T2_MRCC_16 (io), C12 IO_L13P_T2_MRCC_16 (io), D10 IO_L19N_T3_VREF_16 (io), D11 IO_L6N_T0_VREF_16 (io)
part E pins: J6 IO_0_34 (io), K1 IO_L3P_T0_DQS_34 (io), K2 IO_L2N_T0_34 (io), K3 IO_L2P_T0_34 (io), K4 IO_L1P_T0_34 (io), K6 IO_L4P_T0_34 (io), L1 IO_L3N_T0_DQS_34 (io), L4 IO_L1N_T0_34 (io), L5 IO_L5P_T0_34 (io), L6 IO_L4N_T0_34 (io), M1 IO_L8P_T1_34 (io), M2 IO_L7N_T1_34 (io), M3 IO_L7P_T1_34 (io), M4 IO_L5N_T0_34 (io), M5 IO_L6N_T0_VREF_34 (io), M6 IO_L6P_T0_34 (io), N1 IO_L8N_T1_34 (io), N2 IO_L9N_T1_DQS_34 (io), N3 IO_L9P_T1_DQS_34 (io), N4 IO_L10N_T1_34 (io), N5 IO_L10P_T1_34 (io), P1 IO_L11N_T1_SRCC_34 (io), P2 IO_L11P_T1_SRCC_34 (io), P5 IO_L19N_T3_VREF_34 (io), P6 IO_L19P_T3_34 (io), P7 IO_25_34 (io), R1 IO_L12N_T1_MRCC_34 (io), R2 IO_L12P_T1_MRCC_34 (io), R3 IO_L13P_T2_MRCC_34 (io), R4 IO_L18P_T2_34 (io), R5 IO_L21P_T3_DQS_34 (io), R6 IO_L23N_T3_34 (io), R7 IO_L23P_T3_34 (io), T1 IO_L14P_T2_SRCC_34 (io), T2 IO_L13N_T2_MRCC_34 (io), T3 IO_L18N_T2_34 (io), T4 IO_L21N_T3_DQS_34 (io), T5 IO_L22N_T3_34 (io), T6 IO_L22P_T3_34 (io), U1 IO_L14N_T2_SRCC_34 (io), U2 IO_L15N_T2_DQS_34 (io), U3 IO_L15P_T2_DQS_34 (io), U6 IO_L24N_T3_34 (io), U7 IO_L24P_T3_34 (io), V2 IO_L16N_T2_34 (io), V3 IO_L16P_T2_34 (io), V4 IO_L17N_T2_34 (io), V5 IO_L17P_T2_34 (io), V6 IO_L20N_T3_34 (io), V7 IO_L20P_T3_34 (io)
part F pins: A2 IO_L10N_T1_AD15N_35 (io), A3 IO_L10P_T1_AD15P_35 (io), A4 IO_L9N_T1_DQS_AD7N_35 (io), A5 IO_L9P_T1_DQS_AD7P_35 (io), A6 IO_L4N_T0_35 (io), A7 IO_L1N_T0_AD4N_35 (io), A8 IO_L1P_T0_AD4P_35 (io), B1 IO_L12N_T1_MRCC_35 (io), B2 IO_L11N_T1_SRCC_35 (io), B3 IO_L8N_T1_AD14N_35 (io), B4 IO_L7N_T1_AD6N_35 (io), B5 IO_L2N_T0_AD12N_35 (io), B7 IO_L4P_T0_35 (io), C1 IO_L12P_T1_MRCC_35 (io), C2 IO_L11P_T1_SRCC_35 (io), C3 IO_L8P_T1_AD14P_35 (io), C4 IO_L7P_T1_AD6P_35 (io), C5 IO_L2P_T0_AD12P_35 (io), C7 IO_L3N_T0_DQS_AD5N_35 (io), D1 IO_L14N_T2_SRCC_35 (io), D2 IO_L16N_T2_35 (io), D5 IO_L6N_T0_VREF_35 (io), D6 IO_L5N_T0_AD13N_35 (io), D7 IO_L3P_T0_DQS_AD5P_35 (io), E1 IO_L14P_T2_SRCC_35 (io), E2 IO_L16P_T2_35 (io), E3 IO_L15N_T2_DQS_35 (io), E4 IO_L13N_T2_MRCC_35 (io), E5 IO_L6P_T0_35 (io), E6 IO_L5P_T0_AD13P_35 (io), F1 IO_L18N_T2_35 (io), F2 IO_L18P_T2_35 (io), F3 IO_L15P_T2_DQS_35 (io), F4 IO_L13P_T2_MRCC_35 (io), F5 IO_L17N_T2_35 (io), F6 IO_0_35 (io), G1 IO_L21N_T3_DQS_35 (io), G2 IO_L21P_T3_DQS_35 (io), G5 IO_L17P_T2_35 (io), G6 IO_L24N_T3_35 (io), H2 IO_L20N_T3_35 (io), H3 IO_L20P_T3_35 (io), H4 IO_L22N_T3_35 (io), H5 IO_L22P_T3_35 (io), H6 IO_L24P_T3_35 (io), J1 IO_L23N_T3_35 (io), J2 IO_L23P_T3_35 (io), J3 IO_L19N_T3_VREF_35 (io), J4 IO_L19P_T3_35 (io), J5 IO_25_35 (io)
part G pins: B8 VCCBATT_0 (power), E7 VCCINT (power), E9 VCCINT (power), E11 VCCINT (power), F8 VCCINT (power), F10 VCCINT (power), F12 VCCAUX (power), G7 VCCINT (power), G9 VCCINT (power), G11 VCCINT (power), H8 VCCINT (power), H10 VCCADC_0 (power), H12 VCCAUX (power), J7 VCCINT (power), J11 VCCINT (power), K8 VCCINT (power), K12 VCCAUX (power), L7 VCCBRAM (power), L11 VCCINT (power), M8 VCCINT (power), M10 VCCINT (power), M12 VCCAUX (power), N7 VCCBRAM (power), N9 VCCINT (power), N11 VCCINT (power), P8 VCCINT (power), P10 VCCINT (power), P12 VCCAUX (power)
part H pins: B6 VCCO_35 (power), B10 VCCO_16 (power), B12 VCCO_16 (power), C15 VCCO_15 (power), D4 VCCO_35 (power), D8 VCCO_0 (power), F16 VCCO_15 (power), G3 VCCO_35 (power), J17 VCCO_15 (power), L3 VCCO_34 (power), N17 VCCO_14 (power), P4 VCCO_34 (power), T16 VCCO_14 (power), U5 VCCO_34 (power), U13 VCCO_14 (power), V10 VCCO_0 (power)
part I pins: A1 GND (power), A12 GND (power), A18 GND (power), B9 GND (power), C6 GND (power), C16 GND (power), D3 GND (power), D13 GND (power), E8 GND (power), E10 GND (power), F7 GND (power), F9 GND (power), F11 GND (power), F17 GND (power), G4 GND (power), G8 GND (power), G10 GND (power), G12 GND (power), G14 GND (power), H1 GND (power), H7 GND (power), H9 GNDADC_0 (power), H11 GND (power), J8 GND (power), J12 GND (power), J18 GND (power), K5 GND (power), K7 GND (power), K11 GND (power), K15 GND (power), L2 GND (power), L8 GND (power), L12 GND (power), M7 GND (power), M9 GND (power), M11 GND (power), N6 GND (power), N8 GND (power), N10 GND (power), N12 GND (power), N16 GND (power), P3 GND (power), P9 GND (power), P11 GND (power), R10 GND (power), T7 GND (power), T17 GND (power), U4 GND (power), U14 GND (power), V1 GND (power), V11 GND (power), V18 GND (power)
part A text: BANK 0 (CFG)
part B text: BANK 14
part C text: BANK 15
part D text: BANK 16
part E text: BANK 34
part F text: BANK 35
part G text: CORE PWR
part H text: BANK PWR

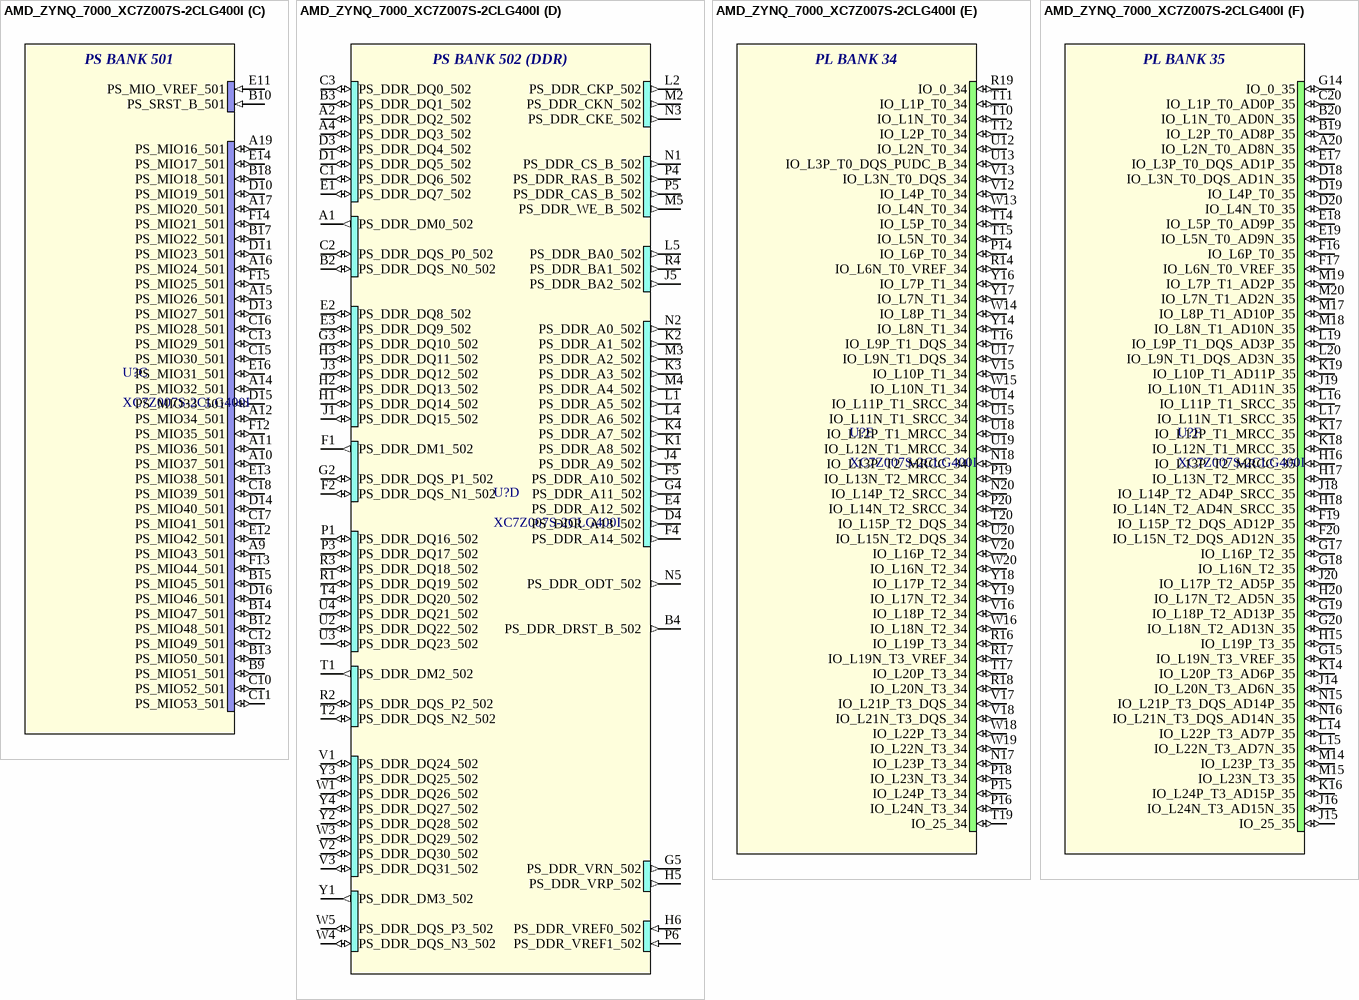
[diagram p4: symbol AMD_ZYNQ_7000_XC7Z007S-2CLG400I]

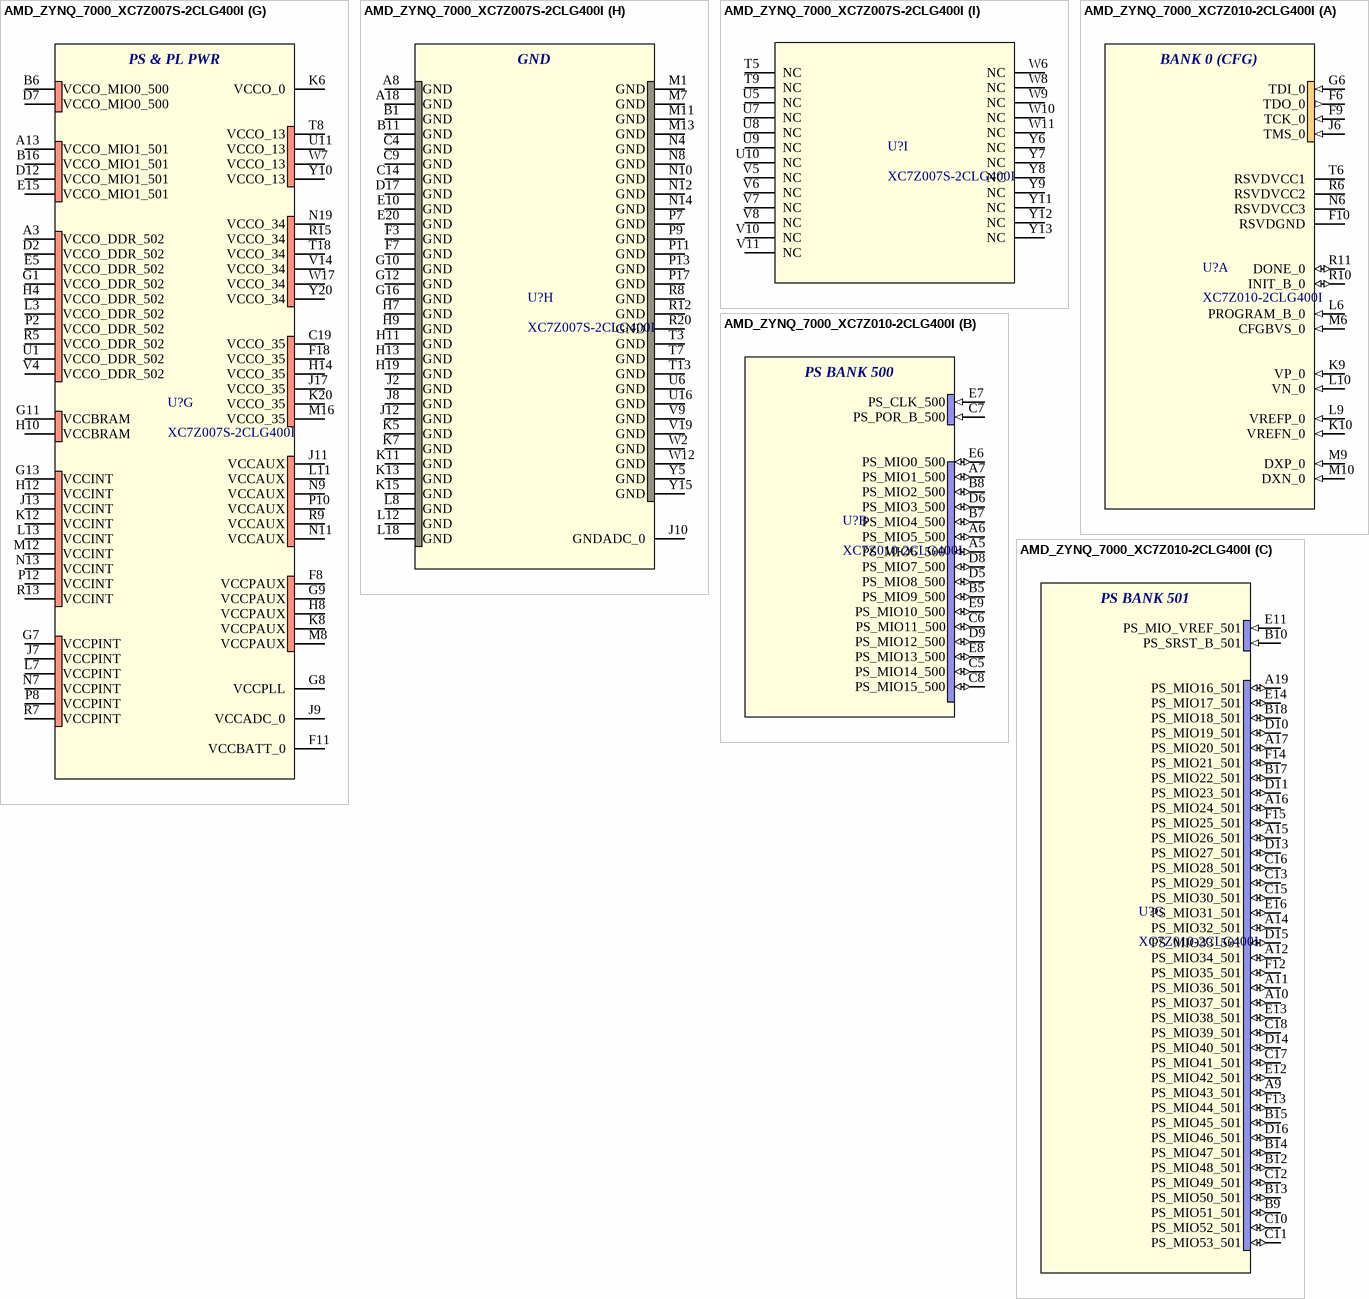
[diagram p5: symbols AMD_ZYNQ_7000_XC7Z007S-2CLG400I to AMD_ZYNQ_7000_XC7Z010-2CLG400I]

## AMD_ZYNQ_7000_XC7Z007S-2CLG400I
designator U?, comment XC7Z007S-2CLG400I
Single ARM® Cortex®-A9 MPCore™ with CoreSight™ System On Chip (SOC) IC Zynq®-7000 Artix™-7 FPGA, 23K Logic Cells 766MHz 400-CSPBGA (17x17); ComponentLink1Description: Digikey; ComponentLink1URL: https://www.digikey.com/en/products/detail/amd/XC7Z007S-2CLG400I/6593122; ComponentLink2Description: Datasheet; ComponentLink2URL: https://docs.amd.com/v/u/en-US/ds190-Zynq-7000-Overview; ComponentLink3Description: LCSC; ComponentLink3URL: https://jlcpcb.com/partdetail/AMDXILINX-XC7Z007S2CLG400I/C1522040
footprint AMD_ZYNQ_7000_XC7Z007S-2CLG400I (Single ARM® Cortex®-A9 MPCore™ with CoreSight™ System On Chip (SOC) IC Zynq®-7000 Artix™-7 FPGA, 23K Logic Cells 766MHz 400-CSPBGA (17x17))
part A pins: F6 TDO_0 (out), F9 TCK_0 (in), F10 RSVDGND (power), G6 TDI_0 (in), J6 TMS_0 (in), K9 VP_0 (in), K10 VREFN_0 (in), L6 PROGRAM_B_0 (in), L9 VREFP_0 (in), L10 VN_0 (in), M6 CFGBVS_0 (in), M9 DXP_0 (in), M10 DXN_0 (in), N6 RSVDVCC3 (power), R6 RSVDVCC2 (power), R10 INIT_B_0 (io), R11 DONE_0 (io), T6 RSVDVCC1 (power)
part B pins: A5 PS_MIO6_500 (io), A6 PS_MIO5_500 (io), A7 PS_MIO1_500 (io), B5 PS_MIO9_500 (io), B7 PS_MIO4_500 (io), B8 PS_MIO2_500 (io), C5 PS_MIO14_500 (io), C6 PS_MIO11_500 (io), C7 PS_POR_B_500 (in), C8 PS_MIO15_500 (io), D5 PS_MIO8_500 (io), D6 PS_MIO3_500 (io), D8 PS_MIO7_500 (io), D9 PS_MIO12_500 (io), E6 PS_MIO0_500 (io), E7 PS_CLK_500 (in), E8 PS_MIO13_500 (io), E9 PS_MIO10_500 (io)
part C pins: A9 PS_MIO43_501 (io), A10 PS_MIO37_501 (io), A11 PS_MIO36_501 (io), A12 PS_MIO34_501 (io), A14 PS_MIO32_501 (io), A15 PS_MIO26_501 (io), A16 PS_MIO24_501 (io), A17 PS_MIO20_501 (io), A19 PS_MIO16_501 (io), B9 PS_MIO51_501 (io), B10 PS_SRST_B_501 (in), B12 PS_MIO48_501 (io), B13 PS_MIO50_501 (io), B14 PS_MIO47_501 (io), B15 PS_MIO45_501 (io), B17 PS_MIO22_501 (io), B18 PS_MIO18_501 (io), C10 PS_MIO52_501 (io), C11 PS_MIO53_501 (io), C12 PS_MIO49_501 (io), C13 PS_MIO29_501 (io), C15 PS_MIO30_501 (io), C16 PS_MIO28_501 (io), C17 PS_MIO41_501 (io), C18 PS_MIO39_501 (io), D10 PS_MIO19_501 (io), D11 PS_MIO23_501 (io), D13 PS_MIO27_501 (io), D14 PS_MIO40_501 (io), D15 PS_MIO33_501 (io), D16 PS_MIO46_501 (io), E11 PS_MIO_VREF_501 (in), E12 PS_MIO42_501 (io), E13 PS_MIO38_501 (io), E14 PS_MIO17_501 (io), E16 PS_MIO31_501 (io), F12 PS_MIO35_501 (io), F13 PS_MIO44_501 (io), F14 PS_MIO21_501 (io), F15 PS_MIO25_501 (io)
part D pins: A1 PS_DDR_DM0_502 (out), A2 PS_DDR_DQ2_502 (io), A4 PS_DDR_DQ3_502 (io), B2 PS_DDR_DQS_N0_502 (io), B3 PS_DDR_DQ1_502 (io), B4 PS_DDR_DRST_B_502 (out), C1 PS_DDR_DQ6_502 (io), C2 PS_DDR_DQS_P0_502 (io), C3 PS_DDR_DQ0_502 (io), D1 PS_DDR_DQ5_502 (io), D3 PS_DDR_DQ4_502 (io), D4 PS_DDR_A13_502 (out), E1 PS_DDR_DQ7_502 (io), E2 PS_DDR_DQ8_502 (io), E3 PS_DDR_DQ9_502 (io), E4 PS_DDR_A12_502 (out), F1 PS_DDR_DM1_502 (out), F2 PS_DDR_DQS_N1_502 (io), F4 PS_DDR_A14_502 (out), F5 PS_DDR_A10_502 (out), G2 PS_DDR_DQS_P1_502 (io), G3 PS_DDR_DQ10_502 (io), G4 PS_DDR_A11_502 (out), G5 PS_DDR_VRN_502 (out), H1 PS_DDR_DQ14_502 (io), H2 PS_DDR_DQ13_502 (io), H3 PS_DDR_DQ11_502 (io), H5 PS_DDR_VRP_502 (out), H6 PS_DDR_VREF0_502 (in), J1 PS_DDR_DQ15_502 (io), J3 PS_DDR_DQ12_502 (io), J4 PS_DDR_A9_502 (out), J5 PS_DDR_BA2_502 (out), K1 PS_DDR_A8_502 (out), K2 PS_DDR_A1_502 (out), K3 PS_DDR_A3_502 (out), K4 PS_DDR_A7_502 (out), L1 PS_DDR_A5_502 (out), L2 PS_DDR_CKP_502 (out), L4 PS_DDR_A6_502 (out), L5 PS_DDR_BA0_502 (out), M2 PS_DDR_CKN_502 (out), M3 PS_DDR_A2_502 (out), M4 PS_DDR_A4_502 (out), M5 PS_DDR_WE_B_502 (out), N1 PS_DDR_CS_B_502 (out), N2 PS_DDR_A0_502 (out), N3 PS_DDR_CKE_502 (out), N5 PS_DDR_ODT_502 (out), P1 PS_DDR_DQ16_502 (io), P3 PS_DDR_DQ17_502 (io), P4 PS_DDR_RAS_B_502 (out), P5 PS_DDR_CAS_B_502 (out), P6 PS_DDR_VREF1_502 (in), R1 PS_DDR_DQ19_502 (io), R2 PS_DDR_DQS_P2_502 (io), R3 PS_DDR_DQ18_502 (io), R4 PS_DDR_BA1_502 (out), T1 PS_DDR_DM2_502 (out), T2 PS_DDR_DQS_N2_502 (io), T4 PS_DDR_DQ20_502 (io), U2 PS_DDR_DQ22_502 (io), U3 PS_DDR_DQ23_502 (io), U4 PS_DDR_DQ21_502 (io), V1 PS_DDR_DQ24_502 (io), V2 PS_DDR_DQ30_502 (io), V3 PS_DDR_DQ31_502 (io), W1 PS_DDR_DQ26_502 (io), W3 PS_DDR_DQ29_502 (io), W4 PS_DDR_DQS_N3_502 (io), W5 PS_DDR_DQS_P3_502 (io), Y1 PS_DDR_DM3_502 (out), Y2 PS_DDR_DQ28_502 (io), Y3 PS_DDR_DQ25_502 (io), Y4 PS_DDR_DQ27_502 (io)
part E pins: N17 IO_L23P_T3_34 (io), N18 IO_L13P_T2_MRCC_34 (io), N20 IO_L14P_T2_SRCC_34 (io), P14 IO_L6P_T0_34 (io), P15 IO_L24P_T3_34 (io), P16 IO_L24N_T3_34 (io), P18 IO_L23N_T3_34 (io), P19 IO_L13N_T2_MRCC_34 (io), P20 IO_L14N_T2_SRCC_34 (io), R14 IO_L6N_T0_VREF_34 (io), R16 IO_L19P_T3_34 (io), R17 IO_L19N_T3_VREF_34 (io), R18 IO_L20N_T3_34 (io), R19 IO_0_34 (io), T10 IO_L1N_T0_34 (io), T11 IO_L1P_T0_34 (io), T12 IO_L2P_T0_34 (io), T14 IO_L5P_T0_34 (io), T15 IO_L5N_T0_34 (io), T16 IO_L9P_T1_DQS_34 (io), T17 IO_L20P_T3_34 (io), T19 IO_25_34 (io), T20 IO_L15P_T2_DQS_34 (io), U12 IO_L2N_T0_34 (io), U13 IO_L3P_T0_DQS_PUDC_B_34 (io), U14 IO_L11P_T1_SRCC_34 (io), U15 IO_L11N_T1_SRCC_34 (io), U17 IO_L9N_T1_DQS_34 (io), U18 IO_L12P_T1_MRCC_34 (io), U19 IO_L12N_T1_MRCC_34 (io), U20 IO_L15N_T2_DQS_34 (io), V12 IO_L4P_T0_34 (io), V13 IO_L3N_T0_DQS_34 (io), V15 IO_L10P_T1_34 (io), V16 IO_L18P_T2_34 (io), V17 IO_L21P_T3_DQS_34 (io), V18 IO_L21N_T3_DQS_34 (io), V20 IO_L16P_T2_34 (io), W13 IO_L4N_T0_34 (io), W14 IO_L8P_T1_34 (io), W15 IO_L10N_T1_34 (io), W16 IO_L18N_T2_34 (io), W18 IO_L22P_T3_34 (io), W19 IO_L22N_T3_34 (io), W20 IO_L16N_T2_34 (io), Y14 IO_L8N_T1_34 (io), Y16 IO_L7P_T1_34 (io), Y17 IO_L7N_T1_34 (io), Y18 IO_L17P_T2_34 (io), Y19 IO_L17N_T2_34 (io)
part F pins: A20 IO_L2N_T0_AD8N_35 (io), B19 IO_L2P_T0_AD8P_35 (io), B20 IO_L1N_T0_AD0N_35 (io), C20 IO_L1P_T0_AD0P_35 (io), D18 IO_L3N_T0_DQS_AD1N_35 (io), D19 IO_L4P_T0_35 (io), D20 IO_L4N_T0_35 (io), E17 IO_L3P_T0_DQS_AD1P_35 (io), E18 IO_L5P_T0_AD9P_35 (io), E19 IO_L5N_T0_AD9N_35 (io), F16 IO_L6P_T0_35 (io), F17 IO_L6N_T0_VREF_35 (io), F19 IO_L15P_T2_DQS_AD12P_35 (io), F20 IO_L15N_T2_DQS_AD12N_35 (io), G14 IO_0_35 (io), G15 IO_L19N_T3_VREF_35 (io), G17 IO_L16P_T2_35 (io), G18 IO_L16N_T2_35 (io), G19 IO_L18P_T2_AD13P_35 (io), G20 IO_L18N_T2_AD13N_35 (io), H15 IO_L19P_T3_35 (io), H16 IO_L13P_T2_MRCC_35 (io), H17 IO_L13N_T2_MRCC_35 (io), H18 IO_L14N_T2_AD4N_SRCC_35 (io), H20 IO_L17N_T2_AD5N_35 (io), J14 IO_L20N_T3_AD6N_35 (io), J15 IO_25_35 (io), J16 IO_L24N_T3_AD15N_35 (io), J18 IO_L14P_T2_AD4P_SRCC_35 (io), J19 IO_L10N_T1_AD11N_35 (io), J20 IO_L17P_T2_AD5P_35 (io), K14 IO_L20P_T3_AD6P_35 (io), K16 IO_L24P_T3_AD15P_35 (io), K17 IO_L12P_T1_MRCC_35 (io), K18 IO_L12N_T1_MRCC_35 (io), K19 IO_L10P_T1_AD11P_35 (io), L14 IO_L22P_T3_AD7P_35 (io), L15 IO_L22N_T3_AD7N_35 (io), L16 IO_L11P_T1_SRCC_35 (io), L17 IO_L11N_T1_SRCC_35 (io), L19 IO_L9P_T1_DQS_AD3P_35 (io), L20 IO_L9N_T1_DQS_AD3N_35 (io), M14 IO_L23P_T3_35 (io), M15 IO_L23N_T3_35 (io), M17 IO_L8P_T1_AD10P_35 (io), M18 IO_L8N_T1_AD10N_35 (io), M19 IO_L7P_T1_AD2P_35 (io), M20 IO_L7N_T1_AD2N_35 (io), N15 IO_L21P_T3_DQS_AD14P_35 (io), N16 IO_L21N_T3_DQS_AD14N_35 (io)
part G pins: A3 VCCO_DDR_502 (power), A13 VCCO_MIO1_501 (power), B6 VCCO_MIO0_500 (power), B16 VCCO_MIO1_501 (power), C19 VCCO_35 (power), D2 VCCO_DDR_502 (power), D7 VCCO_MIO0_500 (power), D12 VCCO_MIO1_501 (power), E5 VCCO_DDR_502 (power), E15 VCCO_MIO1_501 (power), F8 VCCPAUX (power), F11 VCCBATT_0 (power), F18 VCCO_35 (power), G1 VCCO_DDR_502 (power), G7 VCCPINT (power), G8 VCCPLL (power), G9 VCCPAUX (power), G11 VCCBRAM (power), G13 VCCINT (power), H4 VCCO_DDR_502 (power), H8 VCCPAUX (power), H10 VCCBRAM (power), H12 VCCINT (power), H14 VCCO_35 (power), J7 VCCPINT (power), J9 VCCADC_0 (power), J11 VCCAUX (power), J13 VCCINT (power), J17 VCCO_35 (power), K6 VCCO_0 (power), K8 VCCPAUX (power), K12 VCCINT (power), K20 VCCO_35 (power), L3 VCCO_DDR_502 (power), L7 VCCPINT (power), L11 VCCAUX (power), L13 VCCINT (power), M8 VCCPAUX (power), M12 VCCINT (power), M16 VCCO_35 (power), N7 VCCPINT (power), N9 VCCAUX (power), N11 VCCAUX (power), N13 VCCINT (power), N19 VCCO_34 (power), P2 VCCO_DDR_502 (power), P8 VCCPINT (power), P10 VCCAUX (power), P12 VCCINT (power), R5 VCCO_DDR_502 (power), R7 VCCPINT (power), R9 VCCAUX (power), R13 VCCINT (power), R15 VCCO_34 (power), T8 VCCO_13 (power), T18 VCCO_34 (power), U1 VCCO_DDR_502 (power), U11 VCCO_13 (power), V4 VCCO_DDR_502 (power), V14 VCCO_34 (power), W7 VCCO_13 (power), W17 VCCO_34 (power), Y10 VCCO_13 (power), Y20 VCCO_34 (power)
part H pins: A8 GND (power), A18 GND (power), B1 GND (power), B11 GND (power), C4 GND (power), C9 GND (power), C14 GND (power), D17 GND (power), E10 GND (power), E20 GND (power), F3 GND (power), F7 GND (power), G10 GND (power), G12 GND (power), G16 GND (power), H7 GND (power), H9 GND (power), H11 GND (power), H13 GND (power), H19 GND (power), J2 GND (power), J8 GND (power), J10 GNDADC_0 (power), J12 GND (power), K5 GND (power), K7 GND (power), K11 GND (power), K13 GND (power), K15 GND (power), L8 GND (power), L12 GND (power), L18 GND (power), M1 GND (power), M7 GND (power), M11 GND (power), M13 GND (power), N4 GND (power), N8 GND (power), N10 GND (power), N12 GND (power), N14 GND (power), P7 GND (power), P9 GND (power), P11 GND (power), P13 GND (power), P17 GND (power), R8 GND (power), R12 GND (power), R20 GND (power), T3 GND (power), T7 GND (power), T13 GND (power), U6 GND (power), U16 GND (power), V9 GND (power), V19 GND (power), W2 GND (power), W12 GND (power), Y5 GND (power), Y15 GND (power)
part I pins: T5 NC, T9 NC, U5 NC, U7 NC, U8 NC, U9 NC, U10 NC, V5 NC, V6 NC, V7 NC, V8 NC, V10 NC, V11 NC, W6 NC, W8 NC, W9 NC, W10 NC, W11 NC, Y6 NC, Y7 NC, Y8 NC, Y9 NC, Y11 NC, Y12 NC, Y13 NC
part A text: BANK 0 (CFG)
part B text: PS BANK 500
part C text: PS BANK 501
part D text: PS BANK 502 (DDR)
part E text: PL BANK 34
part F text: PL BANK 35
part G text: PS & PL PWR

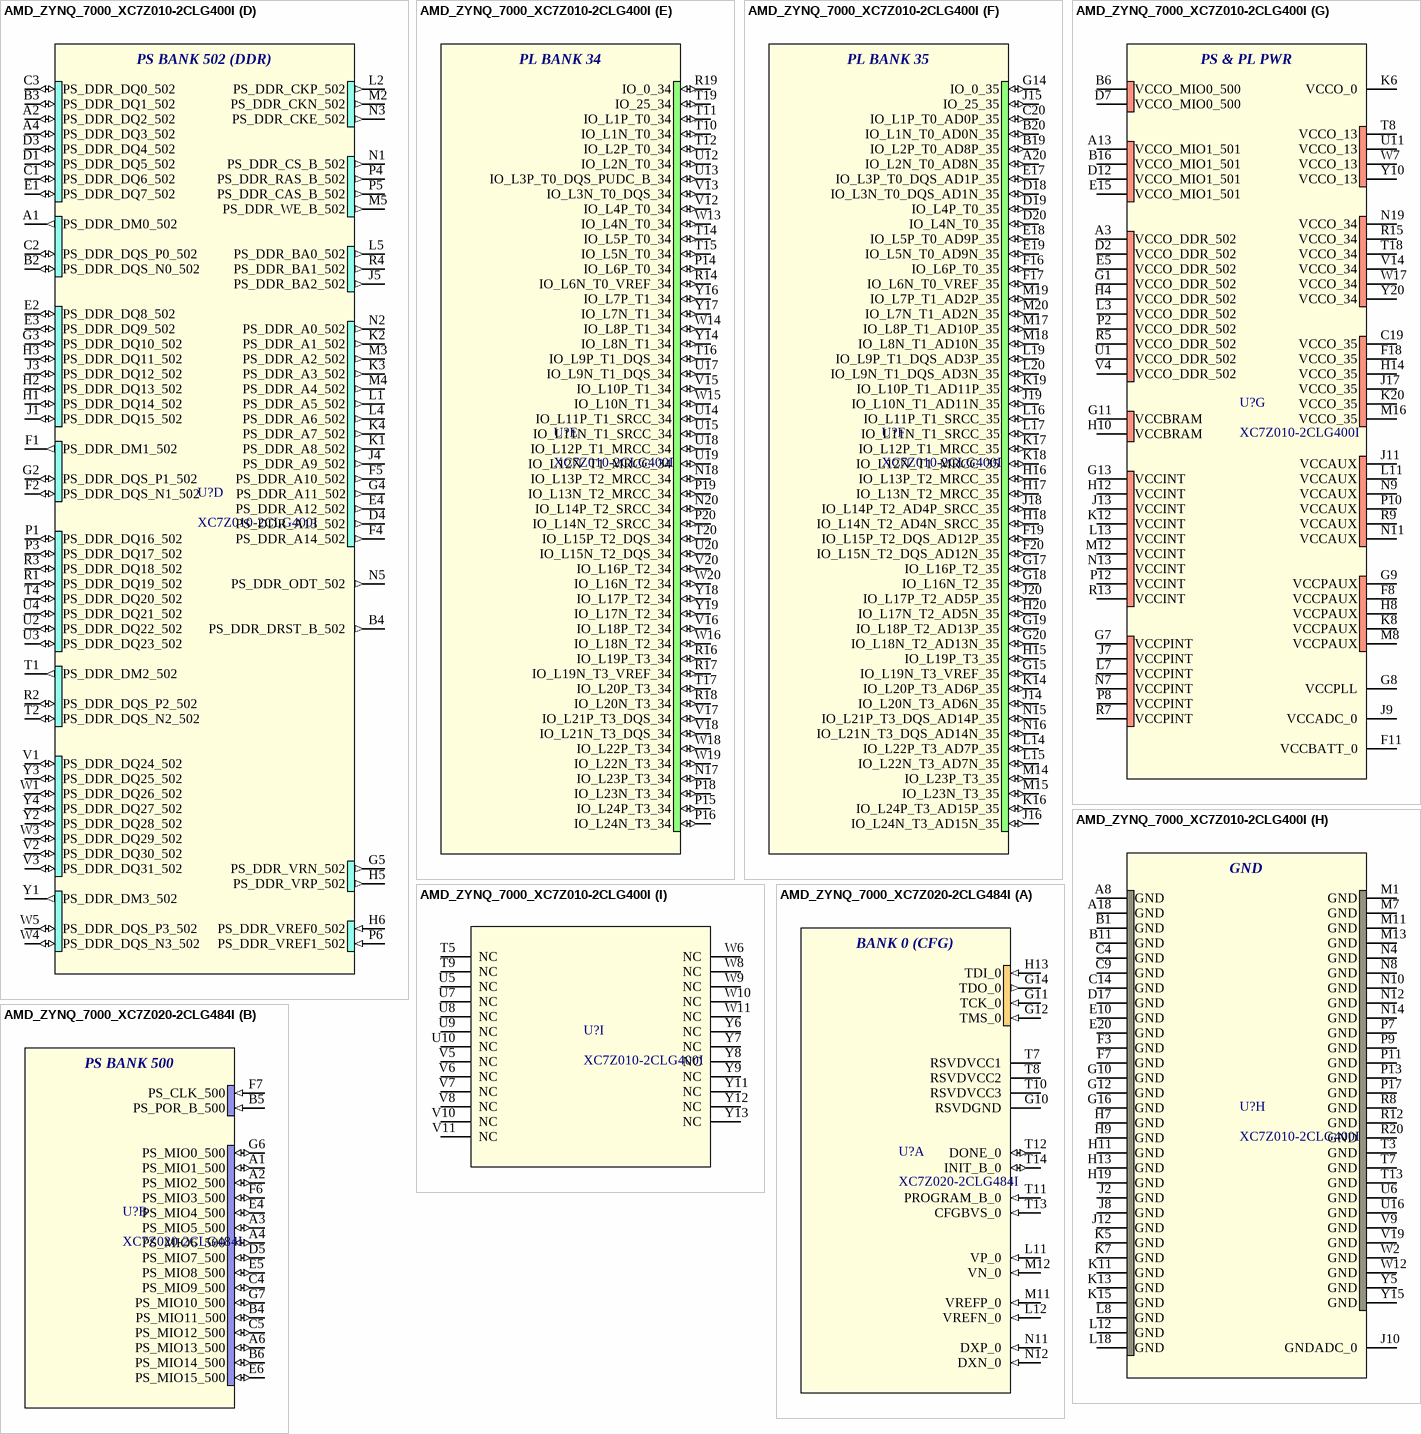
[diagram p6: symbols AMD_ZYNQ_7000_XC7Z010-2CLG400I to AMD_ZYNQ_7000_XC7Z020-2CLG484I]

## AMD_ZYNQ_7000_XC7Z010-2CLG400I
designator U?, comment XC7Z010-2CLG400I
Dual ARM® Cortex®-A9 MPCore™ with CoreSight™ System On Chip (SOC) IC Zynq®-7000 Artix™-7 FPGA, 28K Logic Cells 766MHz 400-CSPBGA (17x17); ComponentLink1Description: Digikey; ComponentLink1URL: https://www.digikey.ca/en/products/detail/amd/XC7Z010-2CLG400I/3925757; ComponentLink2Description: DS187; ComponentLink2URL: https://docs.amd.com/v/u/en-US/ds187-XC7Z010-XC7Z020-Data-Sheet; ComponentLink3Description: DS190; ComponentLink3URL: https://docs.amd.com/v/u/en-US/ds190-Zynq-7000-Overview
footprint AMD_ZYNQ_7000_XC7Z010-2CLG400I (Dual ARM® Cortex®-A9 MPCore™ with CoreSight™ System On Chip (SOC) IC Zynq®-7000 Artix™-7 FPGA, 28K Logic Cells 766MHz 400-CSPBGA (17x17))
part A pins: F6 TDO_0 (out), F9 TCK_0 (in), F10 RSVDGND (power), G6 TDI_0 (in), J6 TMS_0 (in), K9 VP_0 (in), K10 VREFN_0 (in), L6 PROGRAM_B_0 (in), L9 VREFP_0 (in), L10 VN_0 (in), M6 CFGBVS_0 (in), M9 DXP_0 (in), M10 DXN_0 (in), N6 RSVDVCC3 (power), R6 RSVDVCC2 (power), R10 INIT_B_0 (io), R11 DONE_0 (io), T6 RSVDVCC1 (power)
part B pins: A5 PS_MIO6_500 (io), A6 PS_MIO5_500 (io), A7 PS_MIO1_500 (io), B5 PS_MIO9_500 (io), B7 PS_MIO4_500 (io), B8 PS_MIO2_500 (io), C5 PS_MIO14_500 (io), C6 PS_MIO11_500 (io), C7 PS_POR_B_500 (in), C8 PS_MIO15_500 (io), D5 PS_MIO8_500 (io), D6 PS_MIO3_500 (io), D8 PS_MIO7_500 (io), D9 PS_MIO12_500 (io), E6 PS_MIO0_500 (io), E7 PS_CLK_500 (in), E8 PS_MIO13_500 (io), E9 PS_MIO10_500 (io)
part C pins: A9 PS_MIO43_501 (io), A10 PS_MIO37_501 (io), A11 PS_MIO36_501 (io), A12 PS_MIO34_501 (io), A14 PS_MIO32_501 (io), A15 PS_MIO26_501 (io), A16 PS_MIO24_501 (io), A17 PS_MIO20_501 (io), A19 PS_MIO16_501 (io), B9 PS_MIO51_501 (io), B10 PS_SRST_B_501 (in), B12 PS_MIO48_501 (io), B13 PS_MIO50_501 (io), B14 PS_MIO47_501 (io), B15 PS_MIO45_501 (io), B17 PS_MIO22_501 (io), B18 PS_MIO18_501 (io), C10 PS_MIO52_501 (io), C11 PS_MIO53_501 (io), C12 PS_MIO49_501 (io), C13 PS_MIO29_501 (io), C15 PS_MIO30_501 (io), C16 PS_MIO28_501 (io), C17 PS_MIO41_501 (io), C18 PS_MIO39_501 (io), D10 PS_MIO19_501 (io), D11 PS_MIO23_501 (io), D13 PS_MIO27_501 (io), D14 PS_MIO40_501 (io), D15 PS_MIO33_501 (io), D16 PS_MIO46_501 (io), E11 PS_MIO_VREF_501 (in), E12 PS_MIO42_501 (io), E13 PS_MIO38_501 (io), E14 PS_MIO17_501 (io), E16 PS_MIO31_501 (io), F12 PS_MIO35_501 (io), F13 PS_MIO44_501 (io), F14 PS_MIO21_501 (io), F15 PS_MIO25_501 (io)
part D pins: A1 PS_DDR_DM0_502 (out), A2 PS_DDR_DQ2_502 (io), A4 PS_DDR_DQ3_502 (io), B2 PS_DDR_DQS_N0_502 (io), B3 PS_DDR_DQ1_502 (io), B4 PS_DDR_DRST_B_502 (out), C1 PS_DDR_DQ6_502 (io), C2 PS_DDR_DQS_P0_502 (io), C3 PS_DDR_DQ0_502 (io), D1 PS_DDR_DQ5_502 (io), D3 PS_DDR_DQ4_502 (io), D4 PS_DDR_A13_502 (out), E1 PS_DDR_DQ7_502 (io), E2 PS_DDR_DQ8_502 (io), E3 PS_DDR_DQ9_502 (io), E4 PS_DDR_A12_502 (out), F1 PS_DDR_DM1_502 (out), F2 PS_DDR_DQS_N1_502 (io), F4 PS_DDR_A14_502 (out), F5 PS_DDR_A10_502 (out), G2 PS_DDR_DQS_P1_502 (io), G3 PS_DDR_DQ10_502 (io), G4 PS_DDR_A11_502 (out), G5 PS_DDR_VRN_502 (out), H1 PS_DDR_DQ14_502 (io), H2 PS_DDR_DQ13_502 (io), H3 PS_DDR_DQ11_502 (io), H5 PS_DDR_VRP_502 (out), H6 PS_DDR_VREF0_502 (in), J1 PS_DDR_DQ15_502 (io), J3 PS_DDR_DQ12_502 (io), J4 PS_DDR_A9_502 (out), J5 PS_DDR_BA2_502 (out), K1 PS_DDR_A8_502 (out), K2 PS_DDR_A1_502 (out), K3 PS_DDR_A3_502 (out), K4 PS_DDR_A7_502 (out), L1 PS_DDR_A5_502 (out), L2 PS_DDR_CKP_502 (out), L4 PS_DDR_A6_502 (out), L5 PS_DDR_BA0_502 (out), M2 PS_DDR_CKN_502 (out), M3 PS_DDR_A2_502 (out), M4 PS_DDR_A4_502 (out), M5 PS_DDR_WE_B_502 (out), N1 PS_DDR_CS_B_502 (out), N2 PS_DDR_A0_502 (out), N3 PS_DDR_CKE_502 (out), N5 PS_DDR_ODT_502 (out), P1 PS_DDR_DQ16_502 (io), P3 PS_DDR_DQ17_502 (io), P4 PS_DDR_RAS_B_502 (out), P5 PS_DDR_CAS_B_502 (out), P6 PS_DDR_VREF1_502 (in), R1 PS_DDR_DQ19_502 (io), R2 PS_DDR_DQS_P2_502 (io), R3 PS_DDR_DQ18_502 (io), R4 PS_DDR_BA1_502 (out), T1 PS_DDR_DM2_502 (out), T2 PS_DDR_DQS_N2_502 (io), T4 PS_DDR_DQ20_502 (io), U2 PS_DDR_DQ22_502 (io), U3 PS_DDR_DQ23_502 (io), U4 PS_DDR_DQ21_502 (io), V1 PS_DDR_DQ24_502 (io), V2 PS_DDR_DQ30_502 (io), V3 PS_DDR_DQ31_502 (io), W1 PS_DDR_DQ26_502 (io), W3 PS_DDR_DQ29_502 (io), W4 PS_DDR_DQS_N3_502 (io), W5 PS_DDR_DQS_P3_502 (io), Y1 PS_DDR_DM3_502 (out), Y2 PS_DDR_DQ28_502 (io), Y3 PS_DDR_DQ25_502 (io), Y4 PS_DDR_DQ27_502 (io)
part E pins: N17 IO_L23P_T3_34 (io), N18 IO_L13P_T2_MRCC_34 (io), N20 IO_L14P_T2_SRCC_34 (io), P14 IO_L6P_T0_34 (io), P15 IO_L24P_T3_34 (io), P16 IO_L24N_T3_34 (io), P18 IO_L23N_T3_34 (io), P19 IO_L13N_T2_MRCC_34 (io), P20 IO_L14N_T2_SRCC_34 (io), R14 IO_L6N_T0_VREF_34 (io), R16 IO_L19P_T3_34 (io), R17 IO_L19N_T3_VREF_34 (io), R18 IO_L20N_T3_34 (io), R19 IO_0_34 (io), T10 IO_L1N_T0_34 (io), T11 IO_L1P_T0_34 (io), T12 IO_L2P_T0_34 (io), T14 IO_L5P_T0_34 (io), T15 IO_L5N_T0_34 (io), T16 IO_L9P_T1_DQS_34 (io), T17 IO_L20P_T3_34 (io), T19 IO_25_34 (io), T20 IO_L15P_T2_DQS_34 (io), U12 IO_L2N_T0_34 (io), U13 IO_L3P_T0_DQS_PUDC_B_34 (io), U14 IO_L11P_T1_SRCC_34 (io), U15 IO_L11N_T1_SRCC_34 (io), U17 IO_L9N_T1_DQS_34 (io), U18 IO_L12P_T1_MRCC_34 (io), U19 IO_L12N_T1_MRCC_34 (io), U20 IO_L15N_T2_DQS_34 (io), V12 IO_L4P_T0_34 (io), V13 IO_L3N_T0_DQS_34 (io), V15 IO_L10P_T1_34 (io), V16 IO_L18P_T2_34 (io), V17 IO_L21P_T3_DQS_34 (io), V18 IO_L21N_T3_DQS_34 (io), V20 IO_L16P_T2_34 (io), W13 IO_L4N_T0_34 (io), W14 IO_L8P_T1_34 (io), W15 IO_L10N_T1_34 (io), W16 IO_L18N_T2_34 (io), W18 IO_L22P_T3_34 (io), W19 IO_L22N_T3_34 (io), W20 IO_L16N_T2_34 (io), Y14 IO_L8N_T1_34 (io), Y16 IO_L7P_T1_34 (io), Y17 IO_L7N_T1_34 (io), Y18 IO_L17P_T2_34 (io), Y19 IO_L17N_T2_34 (io)
part F pins: A20 IO_L2N_T0_AD8N_35 (io), B19 IO_L2P_T0_AD8P_35 (io), B20 IO_L1N_T0_AD0N_35 (io), C20 IO_L1P_T0_AD0P_35 (io), D18 IO_L3N_T0_DQS_AD1N_35 (io), D19 IO_L4P_T0_35 (io), D20 IO_L4N_T0_35 (io), E17 IO_L3P_T0_DQS_AD1P_35 (io), E18 IO_L5P_T0_AD9P_35 (io), E19 IO_L5N_T0_AD9N_35 (io), F16 IO_L6P_T0_35 (io), F17 IO_L6N_T0_VREF_35 (io), F19 IO_L15P_T2_DQS_AD12P_35 (io), F20 IO_L15N_T2_DQS_AD12N_35 (io), G14 IO_0_35 (io), G15 IO_L19N_T3_VREF_35 (io), G17 IO_L16P_T2_35 (io), G18 IO_L16N_T2_35 (io), G19 IO_L18P_T2_AD13P_35 (io), G20 IO_L18N_T2_AD13N_35 (io), H15 IO_L19P_T3_35 (io), H16 IO_L13P_T2_MRCC_35 (io), H17 IO_L13N_T2_MRCC_35 (io), H18 IO_L14N_T2_AD4N_SRCC_35 (io), H20 IO_L17N_T2_AD5N_35 (io), J14 IO_L20N_T3_AD6N_35 (io), J15 IO_25_35 (io), J16 IO_L24N_T3_AD15N_35 (io), J18 IO_L14P_T2_AD4P_SRCC_35 (io), J19 IO_L10N_T1_AD11N_35 (io), J20 IO_L17P_T2_AD5P_35 (io), K14 IO_L20P_T3_AD6P_35 (io), K16 IO_L24P_T3_AD15P_35 (io), K17 IO_L12P_T1_MRCC_35 (io), K18 IO_L12N_T1_MRCC_35 (io), K19 IO_L10P_T1_AD11P_35 (io), L14 IO_L22P_T3_AD7P_35 (io), L15 IO_L22N_T3_AD7N_35 (io), L16 IO_L11P_T1_SRCC_35 (io), L17 IO_L11N_T1_SRCC_35 (io), L19 IO_L9P_T1_DQS_AD3P_35 (io), L20 IO_L9N_T1_DQS_AD3N_35 (io), M14 IO_L23P_T3_35 (io), M15 IO_L23N_T3_35 (io), M17 IO_L8P_T1_AD10P_35 (io), M18 IO_L8N_T1_AD10N_35 (io), M19 IO_L7P_T1_AD2P_35 (io), M20 IO_L7N_T1_AD2N_35 (io), N15 IO_L21P_T3_DQS_AD14P_35 (io), N16 IO_L21N_T3_DQS_AD14N_35 (io)
part G pins: A3 VCCO_DDR_502 (power), A13 VCCO_MIO1_501 (power), B6 VCCO_MIO0_500 (power), B16 VCCO_MIO1_501 (power), C19 VCCO_35 (power), D2 VCCO_DDR_502 (power), D7 VCCO_MIO0_500 (power), D12 VCCO_MIO1_501 (power), E5 VCCO_DDR_502 (power), E15 VCCO_MIO1_501 (power), F8 VCCPAUX (power), F11 VCCBATT_0 (power), F18 VCCO_35 (power), G1 VCCO_DDR_502 (power), G7 VCCPINT (power), G8 VCCPLL (power), G9 VCCPAUX (power), G11 VCCBRAM (power), G13 VCCINT (power), H4 VCCO_DDR_502 (power), H8 VCCPAUX (power), H10 VCCBRAM (power), H12 VCCINT (power), H14 VCCO_35 (power), J7 VCCPINT (power), J9 VCCADC_0 (power), J11 VCCAUX (power), J13 VCCINT (power), J17 VCCO_35 (power), K6 VCCO_0 (power), K8 VCCPAUX (power), K12 VCCINT (power), K20 VCCO_35 (power), L3 VCCO_DDR_502 (power), L7 VCCPINT (power), L11 VCCAUX (power), L13 VCCINT (power), M8 VCCPAUX (power), M12 VCCINT (power), M16 VCCO_35 (power), N7 VCCPINT (power), N9 VCCAUX (power), N11 VCCAUX (power), N13 VCCINT (power), N19 VCCO_34 (power), P2 VCCO_DDR_502 (power), P8 VCCPINT (power), P10 VCCAUX (power), P12 VCCINT (power), R5 VCCO_DDR_502 (power), R7 VCCPINT (power), R9 VCCAUX (power), R13 VCCINT (power), R15 VCCO_34 (power), T8 VCCO_13 (power), T18 VCCO_34 (power), U1 VCCO_DDR_502 (power), U11 VCCO_13 (power), V4 VCCO_DDR_502 (power), V14 VCCO_34 (power), W7 VCCO_13 (power), W17 VCCO_34 (power), Y10 VCCO_13 (power), Y20 VCCO_34 (power)
part H pins: A8 GND (power), A18 GND (power), B1 GND (power), B11 GND (power), C4 GND (power), C9 GND (power), C14 GND (power), D17 GND (power), E10 GND (power), E20 GND (power), F3 GND (power), F7 GND (power), G10 GND (power), G12 GND (power), G16 GND (power), H7 GND (power), H9 GND (power), H11 GND (power), H13 GND (power), H19 GND (power), J2 GND (power), J8 GND (power), J10 GNDADC_0 (power), J12 GND (power), K5 GND (power), K7 GND (power), K11 GND (power), K13 GND (power), K15 GND (power), L8 GND (power), L12 GND (power), L18 GND (power), M1 GND (power), M7 GND (power), M11 GND (power), M13 GND (power), N4 GND (power), N8 GND (power), N10 GND (power), N12 GND (power), N14 GND (power), P7 GND (power), P9 GND (power), P11 GND (power), P13 GND (power), P17 GND (power), R8 GND (power), R12 GND (power), R20 GND (power), T3 GND (power), T7 GND (power), T13 GND (power), U6 GND (power), U16 GND (power), V9 GND (power), V19 GND (power), W2 GND (power), W12 GND (power), Y5 GND (power), Y15 GND (power)
part I pins: T5 NC, T9 NC, U5 NC, U7 NC, U8 NC, U9 NC, U10 NC, V5 NC, V6 NC, V7 NC, V8 NC, V10 NC, V11 NC, W6 NC, W8 NC, W9 NC, W10 NC, W11 NC, Y6 NC, Y7 NC, Y8 NC, Y9 NC, Y11 NC, Y12 NC, Y13 NC
part A text: BANK 0 (CFG)
part B text: PS BANK 500
part C text: PS BANK 501
part D text: PS BANK 502 (DDR)
part E text: PL BANK 34
part F text: PL BANK 35
part G text: PS & PL PWR

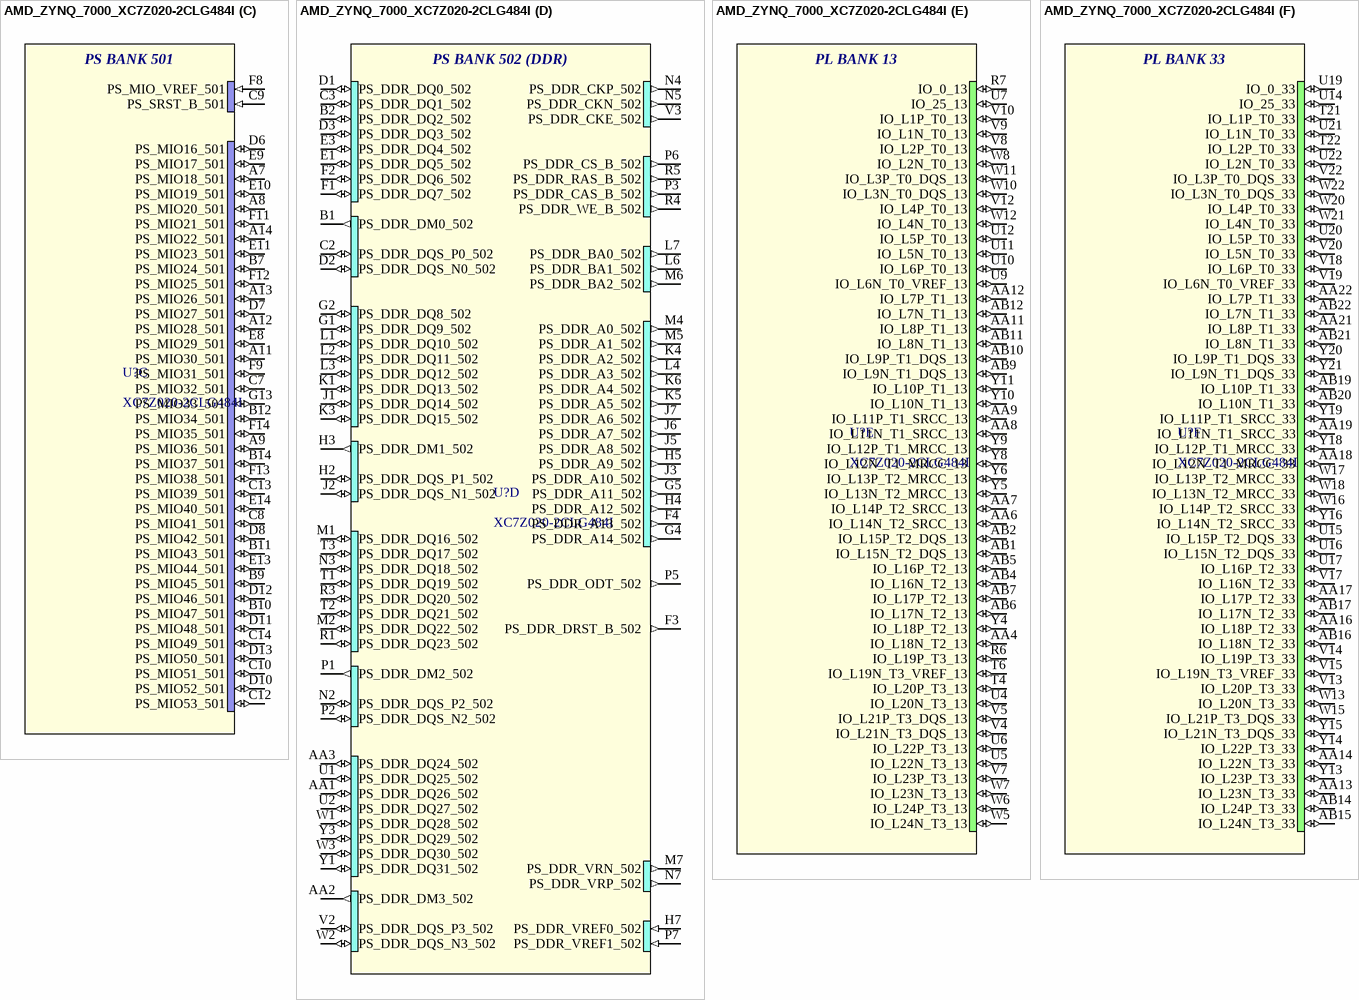
[diagram p7: symbol AMD_ZYNQ_7000_XC7Z020-2CLG484I]

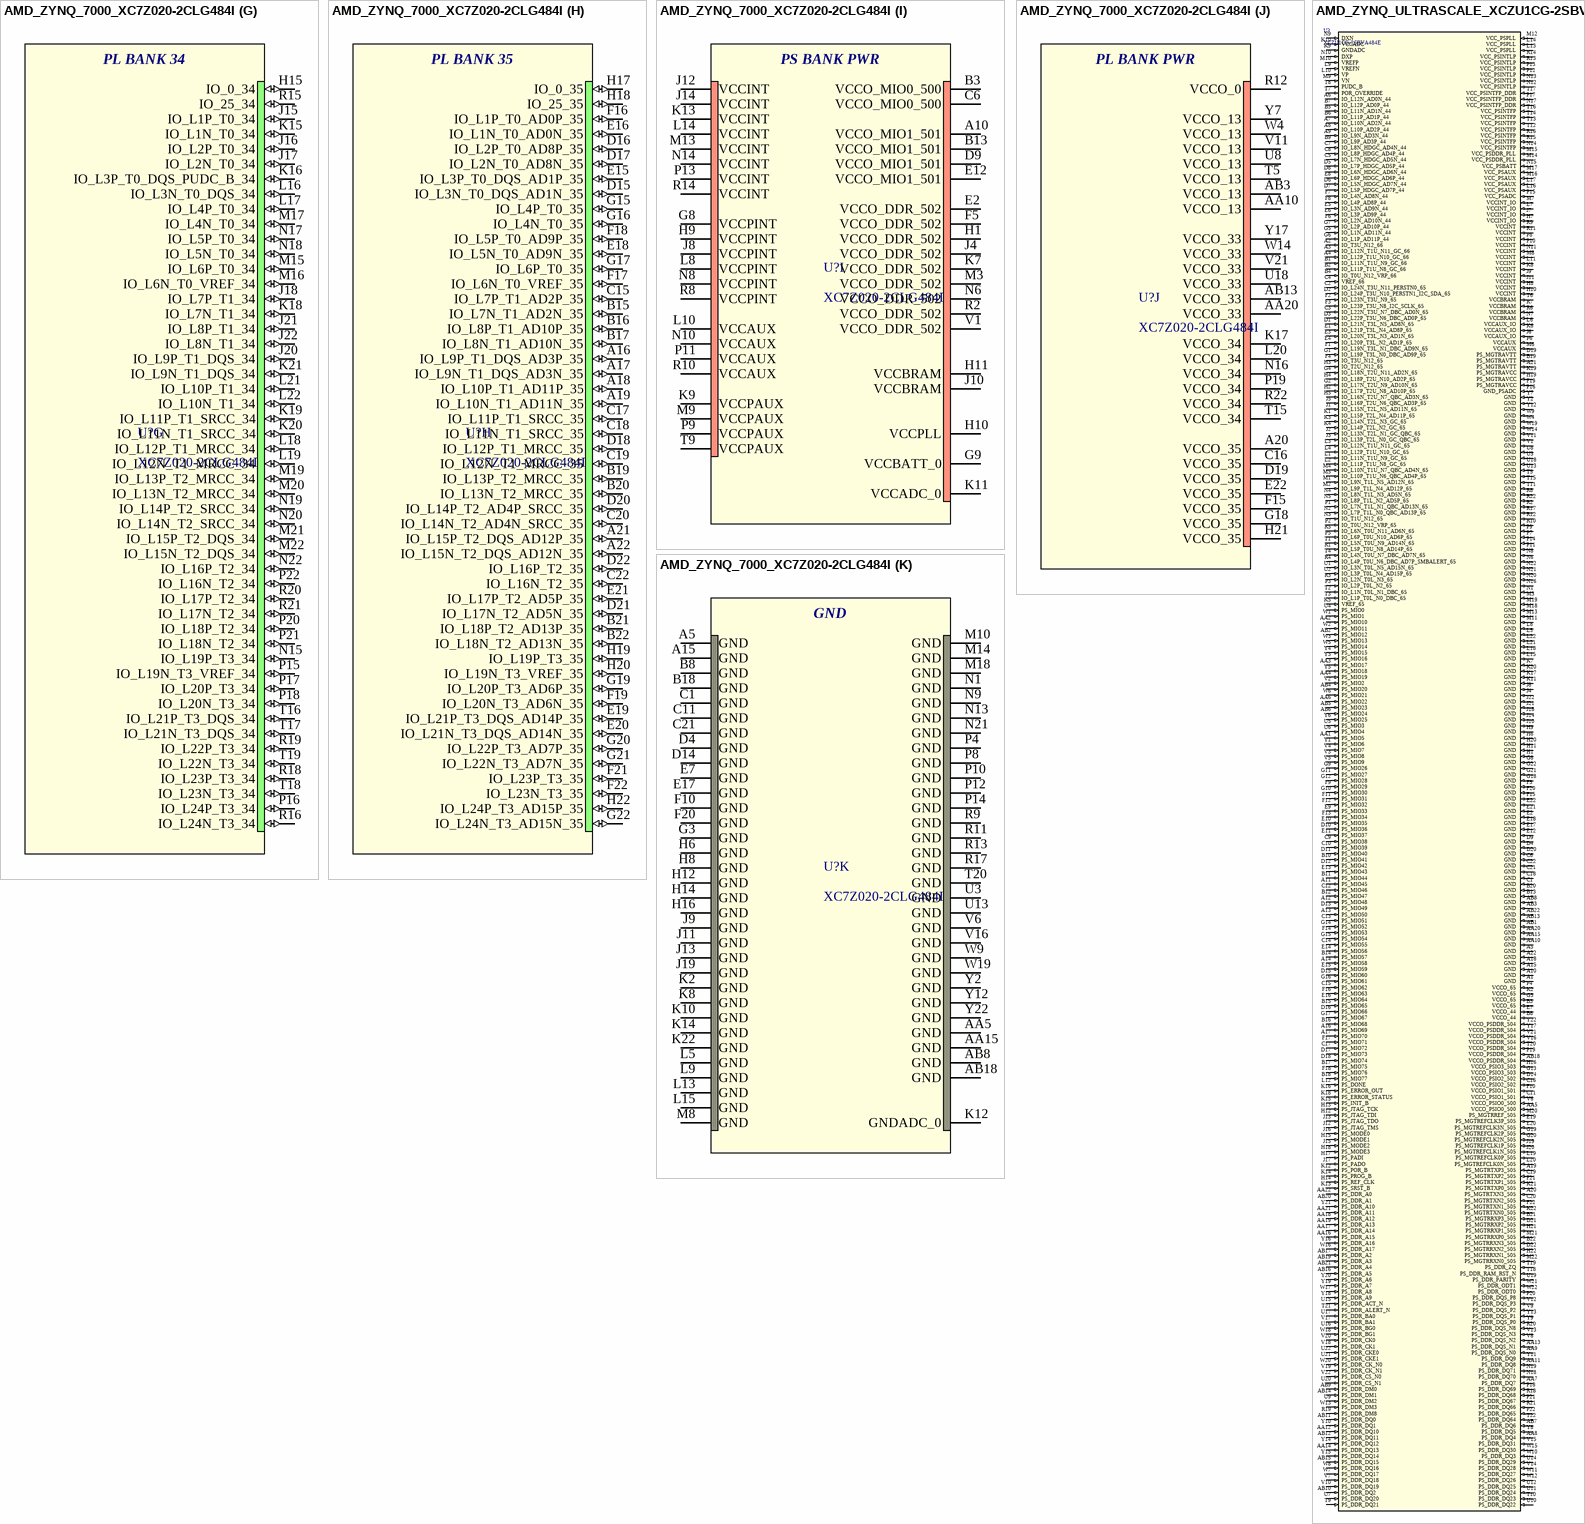
[diagram p8: symbols AMD_ZYNQ_7000_XC7Z020-2CLG484I to AMD_ZYNQ_ULTRASCALE_XCZU1CG-2SBVA484E]